# Altium schematic symbol library MCU.SchLib: 78 symbols (part 1 of 2)
Pins are listed as number, name and electrical type; pins without a type are passive.

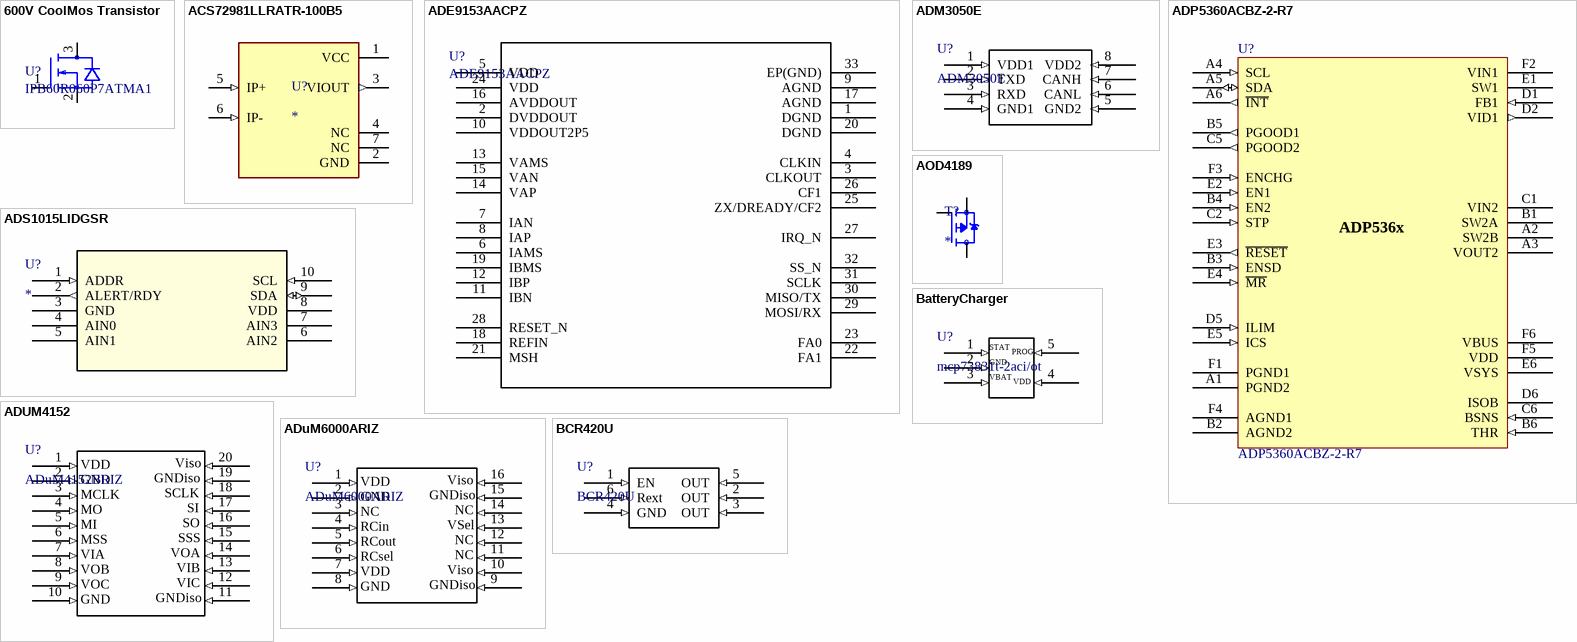
[diagram p0: symbols 600V CoolMos Transistor to BCR420U]

## 600V CoolMos Transistor
designator U?, comment IPB60R060P7ATMA1
MOSFET N-CH TO263-3, 600V
footprint D2PAK TO265-2
pins: 1 G, 2 S, 3 D

## ACS72981LLRATR-100B5
designator U?
Current Sensor 100A 1 Channel Hall Effect, Differential Bidirectional 7-PowerSMD Module; MP: ACS72981LLRATR-100B5; MF: Allegro MicroSystems; Purchase-URL: https://pricing.snapeda.com/search/part/ACS72981LLRATR-100B5/?ref=eda; Package: None; Availability: Warning; Value: *; Price: None; SnapEDA_Link: https://www.snapeda.com/parts/ACS72981LLRATR-100B5/Allegro%20MicroSystems%20LLC/view-part/4771155/?ref=snap; Check_prices: https://www.snapeda.com/parts/ACS72981LLRATR-100B5/Allegro%20MicroSystems%20LLC/view-part/4771155/?ref=eda
footprint XDCR_ACS72981LLRATR-100B5
pins: 1 VCC (power), 2 GND (power), 3 VIOUT (out), 4 NC, 5 IP+ (in), 6 IP- (in), 7 NC

## ADE9153AACPZ
designator U?
Current measurement IC; Vendor: Analog Devices Inc; Built_By: Analog_Devices_Team; Manufacturer_Part_Number: ADE9153AACPZ; Copyright: Copyright (C) 2018 Accelerated Designs. All rights reserved; RefDes: RefDes; Type: DEV; Value: Value
footprint CP_32_12
pins: 1 DGND, 2 DVDDOUT, 3 CLKOUT, 4 CLKIN, 5 VDD, 6 IAMS, 7 IAN, 8 IAP, 9 AGND, 10 VDDOUT2P5, 11 IBN, 12 IBP, 13 VAMS, 14 VAP, 15 VAN, 16 AVDDOUT, 17 AGND, 18 REFIN, 19 IBMS, 20 DGND, 21 MSH, 22 FA1, 23 FA0, 24 VDD, 25 ZX/DREADY/CF2, 26 CF1, 27 IRQ_N, 28 RESET_N, 29 MOSI/RX, 30 MISO/TX, 31 SCLK, 32 SS_N, 33 EP(GND)

## ADM3050E
designator U?
Can isolator SOIC8
footprint ADM3050E (Can Isolator)
pins: 1 VDD1 (in), 2 TXD (in), 3 RXD (in), 4 GND1 (in), 5 GND2 (in), 6 CANL (in), 7 CANH (in), 8 VDD2 (in)

## ADP5360ACBZ-2-R7
designator U?
Advanced Battery Management PMIC With Ultralow Iq Buck and Buck-Boost. Order: ADP5360ACBZ-2-R7; Part Number: ADP536x; Manufacturer: Analog Devices; Part number IPS: 80000001823; Value: ADP536x; Artikkelnr Noca: N.A.; Manufacturer Part Number: ADP536x; ComponentLink1URL: *; ComponentLink1Description: Datasheet; ComponentLink2URL: *; ComponentLink2Description: Supplier link; HelpURL: *; Footprint Doc: WLCSP-32; LatestRevisionDate: 2019-03-25; Pin Count: 32; Publisher: Nordic Semiconductor; Published: 2019-03-25; Note: *; Supplier 1: *; Supplier Part Number 1: *; Supplier 2: *; Supplier Part Number 2: *
footprint BGA32C40P6X6_238X238X56
pins: A1 PGND2 (power), A2 SW2B (power), A3 VOUT2 (power), A4 SCL (in), A5 SDA (io), A6 ~{INT} (out), B1 SW2A (power), B2 AGND2 (power), B3 ENSD (in), B4 EN2 (in), B5 PGOOD1 (out), B6 THR (in), C1 VIN2 (power), C2 STP (in), C5 PGOOD2 (out), C6 BSNS (in), D1 FB1 (in), D2 VID1 (out), D5 ILIM (in), D6 ISOB (power), E1 SW1 (power), E2 EN1 (in), E3 ~{RESET} (out), E4 ~{MR} (in), E5 ICS (in), E6 VSYS (power), F1 PGND1 (power), F2 VIN1 (power), F3 ENCHG (in), F4 AGND1 (power), F5 VDD (power), F6 VBUS (power)

## ADS1015LIDGSR
designator U?
No Description Available; Mfr_Name: Texas Instruments; RefDes: RefDes; Type: Type
footprint VSSOP10_DGS_TEX
pins: 1 ADDR (in), 2 ALERT/RDY (out), 3 GND (power), 4 AIN0, 5 AIN1, 6 AIN2, 7 AIN3, 8 VDD (power), 9 SDA (io), 10 SCL (in)

## ADUM4152
designator U?, comment ADuM4152BRIZ
SPI Isolator
footprint SOIC127P1030X254-20N (SOIC, 20-Leads, Body 15.30x7.50mm, Pitch 1.27mm, IPC Medium Density)
pins: 1 (in), 2 (in), 3 (in), 4 (in), 5 (in), 6 (in), 7 (in), 8 (in), 9 (in), 10 (in), 11 (in), 12 (in), 13 (in), 14 (in), 15 (in), 16 (in), 17 (in), 18 (in), 19 (in), 20 (in)
text: VDD; Viso; GND; GNDiso; MCLK; SCLK; MO; SI; MI; SO; MSS; SSS; VIA; VOA; VOB; VIB; VOC; VIC

## ADuM6000ARIZ
designator U?
ISOLATED DC/DC, 3V3 -> 3V3
footprint SOIC127P1030X254-16N (SOIC, 16-Leads, Body 12.75x7.50mm, Pitch 1.27mm, IPC Medium Density)
pins: 1 (in), 2 (in), 3 (in), 4 (in), 5 (in), 6 (in), 7 (in), 8 (in), 9 (in), 10 (in), 11 (in), 12 (in), 13 (in), 14 (in), 15 (in), 16 (in)
text: VDD; Viso; GND; GNDiso; NC; RCin; VSel; RCout; RCsel

## AOD4189
designator T?
P-Channel 40V 40A (Tc) 2.5W (Ta), 62.5W (Tc) Surface Mount TO-252, (D-Pak); MP: AOD4189; MF: Alpha &; Price: None; SnapEDA_Link: https://www.snapeda.com/parts/AOD4189/Alpha%20&%20Omega%20Semiconductor%20Inc./view-part/328867/?ref=snap; Value: *; Availability: In Stock; Package: TO-252 Alpha &amp; Omega Semiconductor; Check_prices: https://www.snapeda.com/parts/AOD4189/Alpha%20&%20Omega%20Semiconductor%20Inc./view-part/328867/?ref=eda
footprint DPACK
pins: 1 G, 3 S, 4 D

## BatteryCharger
designator U?, comment mcp73831t-2aci/ot
1S battery charger liion in SOT23-5 package
footprint SOT23-5_L (SOT23, 5-Leads, Body 2.95x2.80mm, Pitch 0.95mm, IPC High Density)
pins: 1 (in), 2 (in), 3 (in), 4 (in), 5 (in)
text: STAT; PROG; GND; VBAT; VDD

## BCR420U
designator U?
Linear LED driver IC for low/medium power LEDs
footprint BCR420U (LED Driver)
pins: 1 EN (in), 2 OUT (in), 3 OUT (in), 4 GND (in), 5 OUT (in), 6 Rext (in)

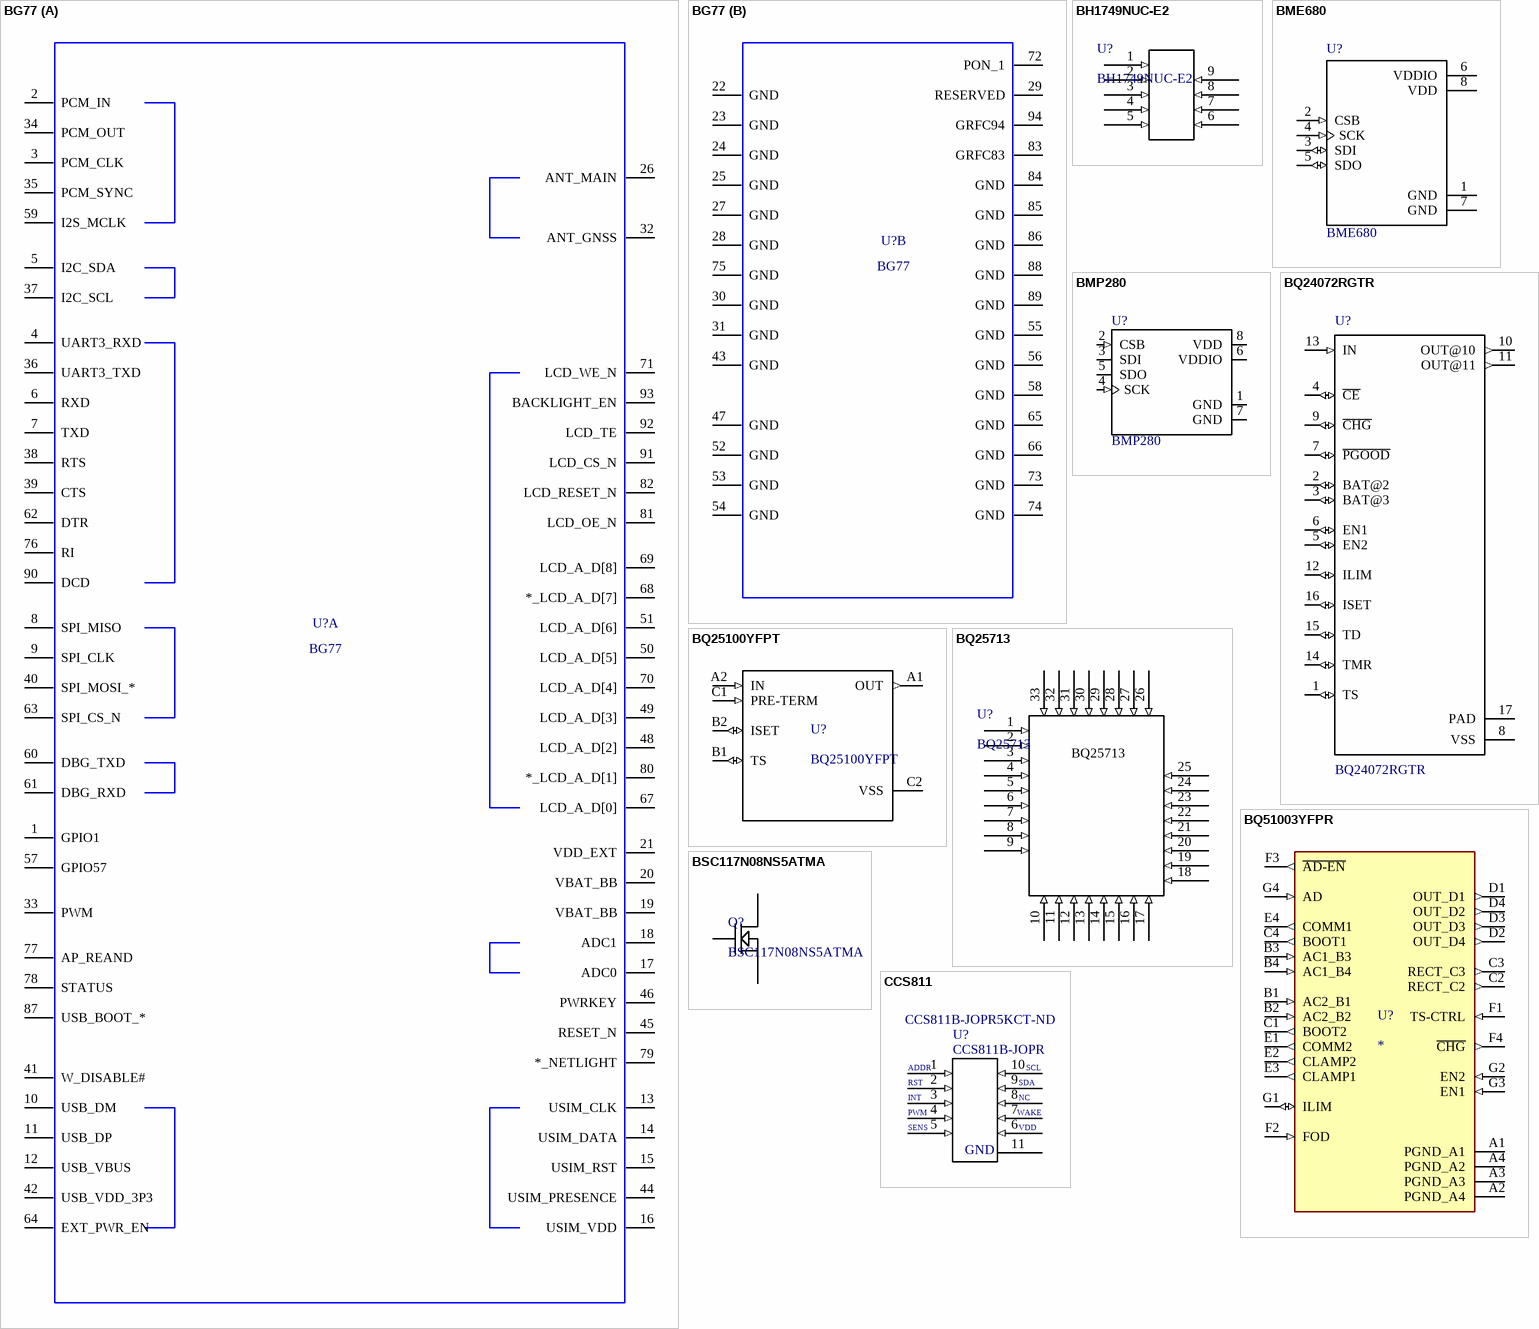
[diagram p1: symbols BG77 to CCS811]

## BG77
designator U?
Manufacturer: QUECTEL; Part Description: IC MODULE BG77 LGA-94 14.9x12.9mm H1.7mm RO; Geometry.Height: 1.7mm; Value: BG77; PCB DECAL: BG77
footprint BG77
part A pins: 1 GPIO1, 2 PCM_IN, 3 PCM_CLK, 4 UART3_RXD, 5 I2C_SDA, 6 RXD, 7 TXD, 8 SPI_MISO, 9 SPI_CLK, 10 USB_DM, 11 USB_DP, 12 USB_VBUS, 13 USIM_CLK, 14 USIM_DATA, 15 USIM_RST, 16 USIM_VDD, 17 ADC0, 18 ADC1, 19 VBAT_BB, 20 VBAT_BB, 21 VDD_EXT, 26 ANT_MAIN, 32 ANT_GNSS, 33 PWM, 34 PCM_OUT, 35 PCM_SYNC, 36 UART3_TXD, 37 I2C_SCL, 38 RTS, 39 CTS, 40 SPI_MOSI_*, 41 W_DISABLE#, 42 USB_VDD_3P3, 44 USIM_PRESENCE, 45 RESET_N, 46 PWRKEY, 48 LCD_A_D[2], 49 LCD_A_D[3], 50 LCD_A_D[5], 51 LCD_A_D[6], 57 GPIO57, 59 I2S_MCLK, 60 DBG_TXD, 61 DBG_RXD, 62 DTR, 63 SPI_CS_N, 64 EXT_PWR_EN, 67 LCD_A_D[0], 68 *_LCD_A_D[7], 69 LCD_A_D[8], 70 LCD_A_D[4], 71 LCD_WE_N, 76 RI, 77 AP_REAND, 78 STATUS, 79 *_NETLIGHT, 80 *_LCD_A_D[1], 81 LCD_OE_N, 82 LCD_RESET_N, 87 USB_BOOT_*, 90 DCD, 91 LCD_CS_N, 92 LCD_TE, 93 BACKLIGHT_EN
part B pins: 22 GND, 23 GND, 24 GND, 25 GND, 27 GND, 28 GND, 29 RESERVED, 30 GND, 31 GND, 43 GND, 47 GND, 52 GND, 53 GND, 54 GND, 55 GND, 56 GND, 58 GND, 65 GND, 66 GND, 72 PON_1, 73 GND, 74 GND, 75 GND, 83 GRFC83, 84 GND, 85 GND, 86 GND, 88 GND, 89 GND, 94 GRFC94

## BH1749NUC-E2
designator U?
RGB Light sensor digital I2C
footprint BH1749NUC-E2 (RGB Light sensor)
pins: 1 (in), 2 (in), 3 (in), 4 (in), 5 (in), 6 (in), 7 (in), 8 (in), 9 (in)

## BME680
designator U?
Gas, Humidity, Pressure, Temperature Sensor IÂ²C, SPI Output; MF: Bosch Sensortec; Digi-Key_Purchase_URL: https://www.digikey.com/product-detail/en/bosch-sensortec/BME680/828-1077-1-ND/7401321?utm_source=snapeda&utm_medium=aggregator&utm_campaign=symbol; SnapEDA_Link: https://www.snapeda.com/parts/BME680/Bosch%20Sensortec/view-part/947201/?ref=snap; MP: BME680; Digi-Key_Part_Number: 828-1077-1-ND; Package: LGA-8 Bosch Tools; Value: *; ComponentLink1Description: Datasheet; ComponentLink1URL: https://www.bosch-sensortec.com/products/environmental-sensors/gas-sensors-bme680/; Supplier 1: Digi-Key; Supplier Part Number 1: 828-1077-1-ND
footprint BME680
footprint bme680 ic
pins: 1 GND (power), 2 CSB (in), 3 SDI (io), 4 SCK (in), 5 SDO (io), 6 VDDIO (power), 7 GND (power), 8 VDD (power)

## BMP280
designator U?
Pressure Sensor 4.35PSI ~ 15.95PSI _30kPa ~ 110kPa_ Absolute 16b 8-SMD; MF: Bosch; Package: SMD-8 Bosch Sensortec; Digi-Key_Purchase_URL: https://www.digikey.no/product-detail/en/bosch-sensortec/BMP280/828-1064-1-ND/6136315?utm_source=snapeda&utm_medium=aggregator&utm_campaign=symbol; MP: BMP280; SnapEDA_Link: https://www.snapeda.com/parts/BMP280/Bosch%20Sensortec/view-part/1186631/?ref=snap; Digi-Key_Part_Number: 828-1064-1-ND; Value: *
footprint *XDCR_BMP280
pins: 1 GND (power), 2 CSB (in), 3 SDI (io), 4 SCK (in), 5 SDO (io), 6 VDDIO (power), 7 GND (power), 8 VDD (power)

## BQ24072RGTR
designator U?
1S liion charger with powerpath and protection; SnapEDA_Link: https://www.snapeda.com/parts/BQ24072RGTR/Texas%20Instruments/view-part/43339/?ref=snap; Value: *
footprint bq2407x (QFN, 16-Leads, Body 3.00x3.00mm, Pitch 0.50mm, Thermal Pad 1.68x1.68mm, IPC Medium Density)
pins: 1 TS (io), 2 BAT@2 (io), 3 BAT@3 (io), 4 ~{CE} (io), 5 EN2 (io), 6 EN1 (io), 7 ~{PGOOD} (io), 8 VSS (power), 9 ~{CHG} (io), 10 OUT@10 (out), 11 OUT@11 (out), 12 ILIM (io), 13 IN (in), 14 TMR (io), 15 TD (io), 16 ISET (io), 17 PAD (power)

## BQ25100YFPT
designator U?
Standalone 1-cell, 250-mA linear battery charger with 4.2-V charge voltage and prog. pre-charge 6-DSBGA 0 to 125; MF: Texas Instruments; DigiKey-Purchase-URL: https://snapeda.com/shop?store=DigiKey&id=251118; Mouser-Purchase-URL: https://snapeda.com/shop?store=Mouser&id=251118; SnapEDA_Link: https://www.snapeda.com/parts/BQ25100YFPT/Texas%20Instruments/view-part/251118/?ref=snap; Digi-Key_Part_Number: 296-38373-1-ND; MP: BQ25100YFPT; Value: *; Texas_Instruments-Purchase-URL: https://snapeda.com/shop?store=Texas+Instruments&id=251118; Package: DSBGA-6 Texas Instruments
footprint BQ25100YFP (Liion Charger)
pins: A1 OUT (out), A2 IN (in), B1 TS (io), B2 ISET (io), C1 PRE-TERM (in), C2 VSS (power)

## BQ25713
designator U?
NVDC I2C address 1 buck-boost battery charger controller compatible with USB type C PD
footprint BQ25713 (LI-ION battery charger USBC)
pins: 1 (in), 2 (in), 3 (in), 4 (in), 5 (in), 6 (in), 7 (in), 8 (in), 9 (in), 10 (in), 11 (in), 12 (in), 13 (in), 14 (in), 15 (in), 16 (in), 17 (in), 18 (in), 19 (in), 20 (in), 21 (in), 22 (in), 23 (in), 24 (in), 25 (in), 26 (in), 27 (in), 28 (in), 29 (in), 30 (in), 31 (in), 32 (in), 33 (in)

## BQ51003YFPR
designator U?
BQ51003 Wireless power Receiver 28-DSBGA -40 to 85; MP: BQ51003YFPR; Package: None; Value: *; Availability: Unavailable; Price: None
footprint BQ51003
pins: A1 PGND_A1 (power), A2 PGND_A4 (power), A3 PGND_A3 (power), A4 PGND_A2 (power), B1 AC2_B1 (in), B2 AC2_B2 (in), B3 AC1_B3 (in), B4 AC1_B4 (in), C1 BOOT2 (out), C2 RECT_C2 (out), C3 RECT_C3 (out), C4 BOOT1 (out), D1 OUT_D1 (out), D2 OUT_D4 (out), D3 OUT_D3 (out), D4 OUT_D2 (out), E1 COMM2 (out), E2 CLAMP2 (out), E3 CLAMP1 (out), E4 COMM1 (out), F1 TS-CTRL (in), F2 FOD (in), F3 ~{AD-EN} (out), F4 ~{CHG} (out), G1 ILIM (io), G2 EN2 (in), G3 EN1 (in), G4 AD (in)

## BSC117N08NS5ATMA
designator Q?
Mosfet; Manufacturer_Part_Number: BSC117N08NS5ATMA1; VdsMax: 80.0; IdsMax: 55.0; Rdson45: 101.0; QgTyp: 19.0; Vendor: Infineon Technologies; Datasheet_URL: http://www.infineon.com/dgdl/BSC123N08NS3G%5Frev2.3.pdf?folderId%3Ddb3a304313b8b5a60113cee8763b02d7%26fileId%3Ddb3a30431add1d95011ae80eb8555625; Quantity: 1; RefDes: RefDes; TYPE: TYPE; Value: Value
footprint PG-TDSON-8
pins: 1 Source, 2 Source, 3 Source, 4 Gate, 5 Drain, 6 Drain, 7 Drain, 8 Drain, 9 Drain

## CCS811
designator U?, comment CCS811B-JOPR  Supplier Part Number 1: CCS811B-JOPR5KCT-ND
CO2 and VOC sensor; Manufacturer Part Number: CCS811; ComponentLink1Description: Datasheet; ComponentLink1URL: https://ams.com/ccs811; Supplier 1: Digi-Key
footprint ccs811
pins: 1 (in), 2 (in), 3 (in), 4 (in), 5 (in), 6 (in), 7 (in), 8 (in), 9 (in), 10 (in), 11
text: ADDR; SCL; RST; SDA; INT; NC; PWM; WAKE; SENS; VDD; GND

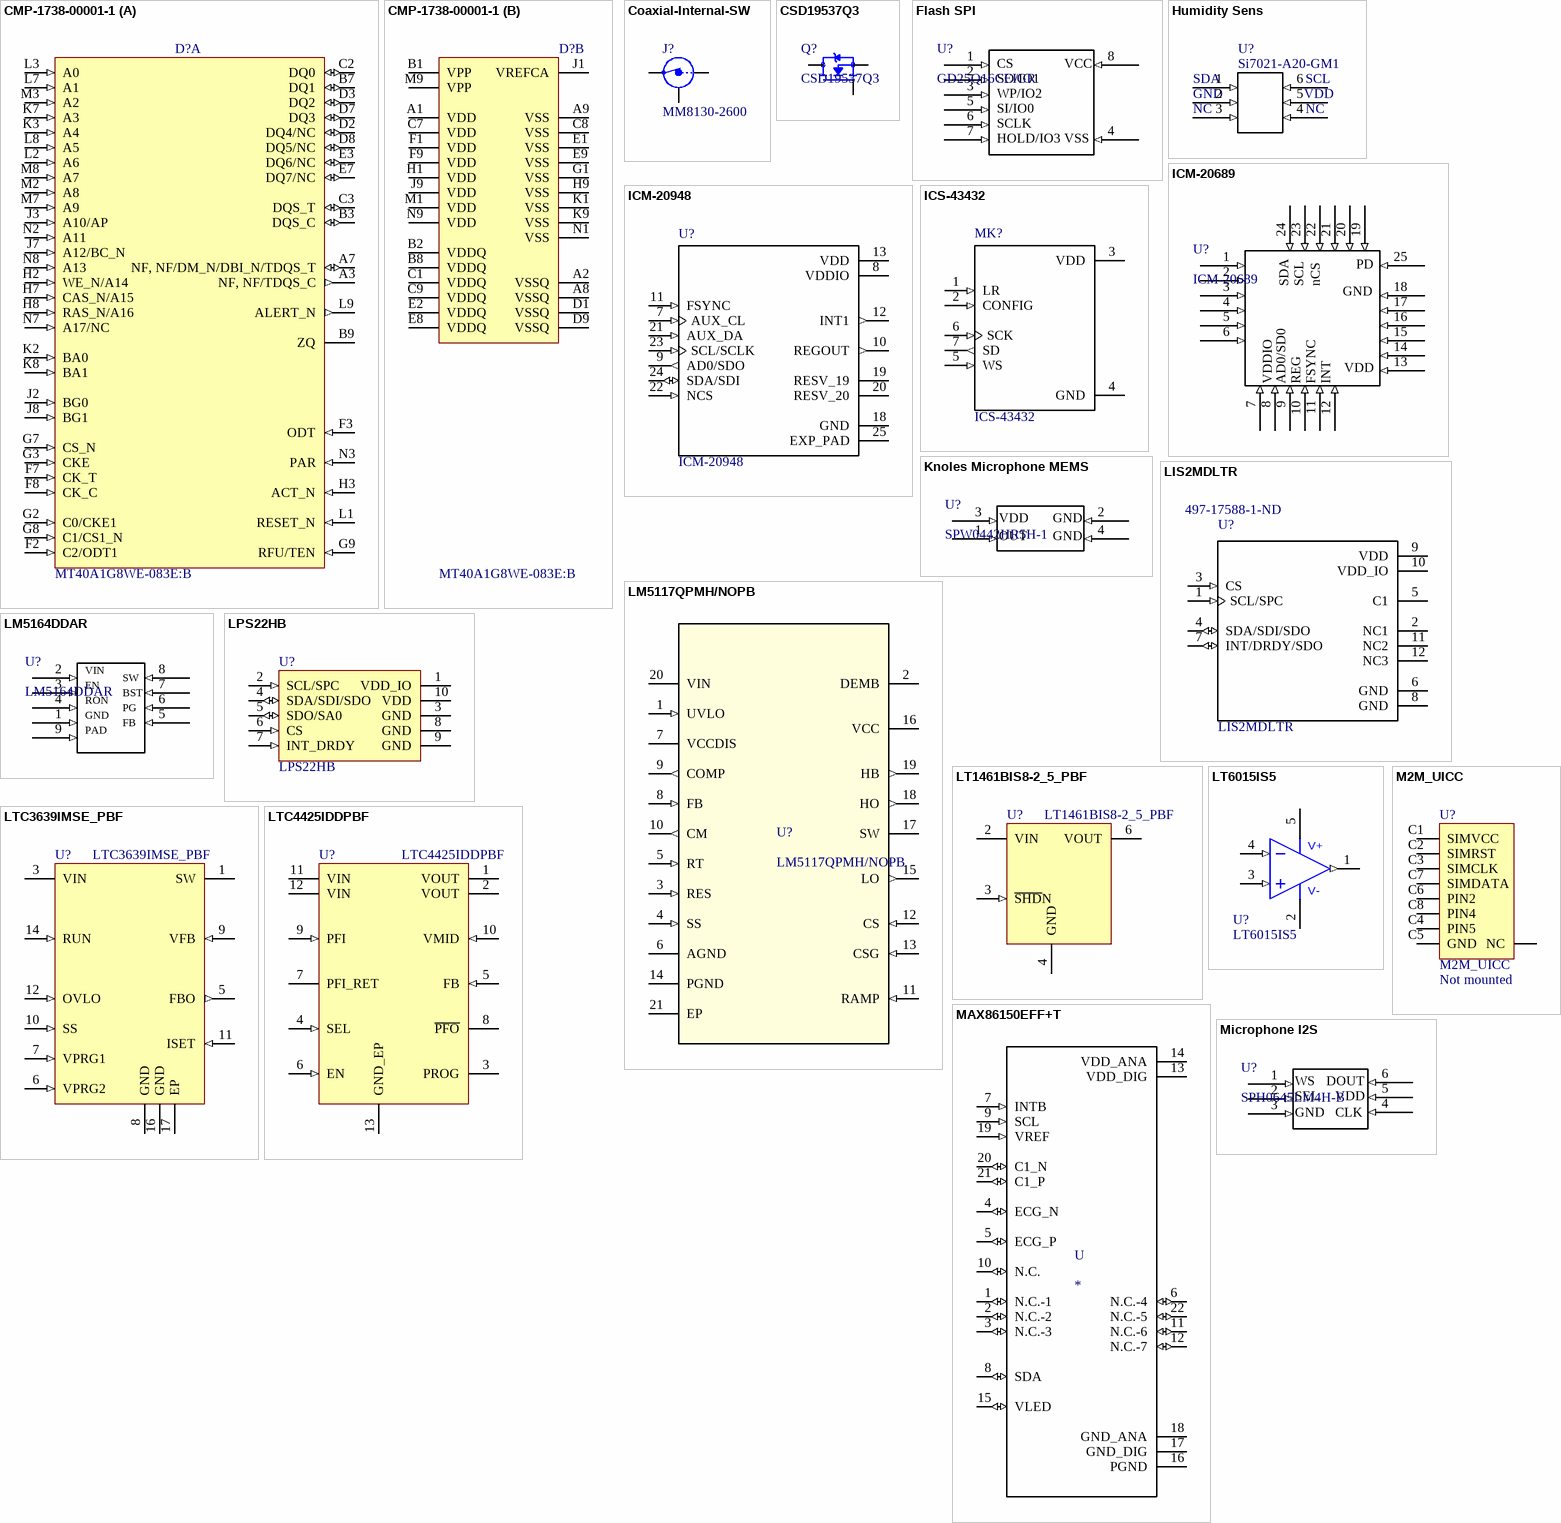
[diagram p2: symbols CMP-1738-00001-1 to Microphone I2S]

## CMP-1738-00001-1
designator D?, comment MT40A1G8WE-083E:B
8 Gb DDR4 SDRAM, 1 Gig x 8, 1.2 V, 0 to 95 degC, 78-Ball FBGA (WE), RoHS; Manufacturer: MICRON; DatasheetVersion: Rev. E, 05/2016; ComponentLink2Description: Datasheet; ComponentLink2URL: https://www.micron.com/~/media/documents/products/data-sheet/dram/ddr4/8gb_ddr4_sdram.pdf; PartNumber: MT40A1G8WE-083E:B; PackageDescription: 78-Ball Ball Grid Array, Body 8 x 12 mm, Pitch 0.8 mm; ComponentLink1URL: http://www.micron.com/; ComponentLink1Description: Manufacturer URL; Mounting Technology: Surface Mount; PartId: 1; Manufacturer Part Number: MT40A1G8WE-083E:B
footprint 200-WFBGA (DDR4)
part A pins: A3 NF, NF/TDQS_C (out), A7 NF, NF/DM_N/DBI_N/TDQS_T (io), B3 DQS_C (io) "Data strobe", B7 DQ1 (io) "Data input/output", B9 ZQ "Reference ball for ZQ calibration", C2 DQ0 (io) "Data input/output", C3 DQS_T (io) "Data strobe", D2 DQ4/NC (io), D3 DQ2 (io) "Data input/output", D7 DQ3 (io) "Data input/output", D8 DQ5/NC (io), E3 DQ6/NC (io), E7 DQ7/NC (io), F2 C2/ODT1 (in), F3 ODT (in) "On-die termination", F7 CK_T (in) "Clock", F8 CK_C (in) "Clock", G2 C0/CKE1 (in), G3 CKE (in) "Clock enable", G7 CS_N (in) "Chip select", G8 C1/CS1_N (in), G9 RFU/TEN (in), H2 WE_N/A14 (in), H3 ACT_N (in) "Command input", H7 CAS_N/A15 (in), H8 RAS_N/A16 (in), J2 BG0 (in) "Bank group address input", J3 A10/AP (in), J7 A12/BC_N (in), J8 BG1 (in) "Bank group address input", K2 BA0 (in) "Bank address input", K3 A4 (in) "Address input", K7 A3 (in) "Address input", K8 BA1 (in) "Bank address input", L1 RESET_N (in) "Active LOW asynchronous reset", L2 A6 (in) "Address input", L3 A0 (in) "Address input", L7 A1 (in) "Address input", L8 A5 (in) "Address input", L9 ALERT_N (out) "Alert output", M2 A8 (in) "Address input", M3 A2 (in) "Address input", M7 A9 (in) "Address input", M8 A7 (in) "Address input", N2 A11 (in) "Address input", N3 PAR (in) "Parity for command and address", N7 A17/NC (in), N8 A13 (in) "Address input"
part B pins: A1 VDD (power) "Power supply", A2 VSSQ (power) "DQ ground", A8 VSSQ (power) "DQ ground", A9 VSS (power) "Ground", B1 VPP (power) "DRAM activating power supply", B2 VDDQ (power) "DQ power supply", B8 VDDQ (power) "DQ power supply", C1 VDDQ (power) "DQ power supply", C7 VDD (power) "Power supply", C8 VSS (power) "Ground", C9 VDDQ (power) "DQ power supply", D1 VSSQ (power) "DQ ground", D9 VSSQ (power) "DQ ground", E1 VSS (power) "Ground", E2 VDDQ (power) "DQ power supply", E8 VDDQ (power) "DQ power supply", E9 VSS (power) "Ground", F1 VDD (power) "Power supply", F9 VDD (power) "Power supply", G1 VSS (power) "Ground", H1 VDD (power) "Power supply", H9 VSS (power) "Ground", J1 VREFCA "Reference voltage for control, command, and address pins.", J9 VDD (power) "Power supply", K1 VSS (power) "Ground", K9 VSS (power) "Ground", M1 VDD (power) "Power supply", M9 VPP (power) "DRAM activating power supply", N1 VSS (power) "Ground", N9 VDD (power) "Power supply"

## Coaxial-Internal-SW
designator J?, comment MM8130-2600
Coaxial Connector with Switch; Manufacturer: Murata; Part number IPS: N.A.; Artikkelnr Noca: 55029011; Part Number: MM8130-2600; Manufacturer Part Number: MM8130-2600; LatestRevisionDate: 2014-04-24; Pin Count: 3; Publisher: Nordic Semiconductor; Published: 2014-04-24; Value: MM8130-2600; Note: *; Footprint Doc: COAXIAL-SWF; ComponentLink1URL: *; ComponentLink1Description: Datasheet; ComponentLink2URL: *; ComponentLink2Description: Supplier link; HelpURL: http://www.murata.com/products/catalog/pdf/o33e.pdf; Supplier 1: Digi-Key; Supplier Part Number 1: 490-4981-1-ND; Supplier 2: Mouser; Supplier Part Number 2: 81-MM8130-2600RA2
footprint COAXIAL-SWF
pins: 1 IN, 2 Shield, 3 OUT

## CSD19537Q3
designator Q?
N-Channel 100V 12A (Tc) 2.6W (Ta) Surface Mount 8-SON (3.3x3.3); MP: CSD17551Q3A; MF: Texas Instruments; SnapEDA_Link: https://www.snapeda.com/parts/CSD17551Q3A/Texas%20Instruments/view-part/304205/?ref=snap; Value: *; Availability: Unavailable; DigiKey-Purchase-URL: https://snapeda.com/shop?store=DigiKey&id=304205; Package: SON-8 Texas Instruments; Price: None
footprint TRANS_CSD17551Q3A (Footprint not found)
pins: 1 S, 2 S, 3 S, 4 G, 5 D

## Flash SPI
designator U?, comment GD25Q16CEIGR
Flash SPI 16Mb = 2 MB; Supplier 1: Mouser; Supplier Part Number 1: 363-GD25Q16CEIGR
footprint GD25Q16CEIGR (Flash SPI USON8 Package)
footprint M95512-A125 (SPI EPROM)
pins: 1 (in), 2 (in), 3 (in), 4 (in), 5 (in), 6 (in), 7 (in), 8 (in)
text: CS; VCC; SO/IO1; WP/IO2; SI/IO0; SCLK; HOLD/IO3; VSS

## Humidity Sens
designator U?, comment Si7021-A20-GM1
Si7021, Humid sens; ComponentLink1Description: Datasheet; ComponentLink1URL: https://no.mouser.com/datasheet/2/368/Si7021-A20-1397917.pdf; Manufacturer Part Number: Si7021
footprint Humidity sensor (https://no.mouser.com/datasheet/2/368/Si7021-A20-1397917.pdf)
pins: 1 (in), 2 (in), 3 (in), 4 (in), 5 (in), 6 (in)
text: SDA; SCL; GND; VDD; NC

## ICM-20689
designator U?
ICM-20689 6 aksis gyro
footprint QFN50P400X400X90_HS-25N (QFN, 24-Leads, Body 4.00x4.00mm, Pitch 0.50mm, Thermal Pad 2.60x2.70mm, IPC Medium Density)
pins: 1 (in), 2 (in), 3 (in), 4 (in), 5 (in), 6 (in), 7 (in), 8 (in), 9 (in), 10 (in), 11 (in), 12 (in), 13 (in), 14 (in), 15 (in), 16 (in), 17 (in), 18 (in), 19 (in), 20 (in), 21 (in), 22 (in), 23 (in), 24 (in), 25 (in)
text: PD; SDA; SCL; nCS; GND; VDD; VDDIO; AD0/SD0; REG; FSYNC; INT

## ICM-20948
designator U?
9 Axis=3 Axis Gyro+3 Axis Accel+Compass.; MF: TDK InvenSense; Availability: Unavailable; Package: QFN-24 InvenSense; SnapEDA_Link: https://www.snapeda.com/parts/ICM-20948/TDK%20InvenSense/view-part/?ref=snap; Manufacturer Part Number: ICM-20948; Price: None; Value: *; ComponentLink1Description: Datasheet; ComponentLink1URL: http://www.invensense.com/wp-content/uploads/2016/06/DS-000189-ICM-20948-v1.3.pdf; Supplier 1: Digi-Key; Supplier Part Number 1: 1428-1123-1-ND
footprint *QFN40P300X300X105-25N
pins: 7 AUX_CL (in), 8 VDDIO (power), 9 AD0/SDO (out), 10 REGOUT (out), 11 FSYNC (in), 12 INT1 (out), 13 VDD (power), 18 GND (power), 19 RESV_19, 20 RESV_20, 21 AUX_DA (in), 22 NCS (in), 23 SCL/SCLK (in), 24 SDA/SDI (io), 25 EXP_PAD (power)

## ICS-43432
designator MK?
50Hz ~ 20kHz Digital, IÂ²S Microphone MEMS _Silicon_ 1.62V ~ 3.63V Omnidirectional _-26dB Â±1dB @ 94dB SPL_ Solder Pads; MF: TDK InvenSense; SnapEDA_Link: https://www.snapeda.com/parts/ICS-43432/TDK%20InvenSense/view-part/63105/?ref=snap; Price: None; MP: ICS-43432; Package: LGA-7 TDK-InvenSense; Availability: Unavailable; Value: *; Supplier 1: Digi-Key; Supplier Part Number 1: 1428-1053-1-ND
footprint MIC_ICS-43432 (Footprint not found)
pins: 1 LR (in), 2 CONFIG (in), 3 VDD (power), 4 GND (power), 5 WS (in), 6 SCK (in), 7 SD (out)

## Knoles Microphone MEMS
designator U?, comment SPW0442HR5H-1
Mems Microphone Analog Output; ComponentLink1Description: Datasheet; ComponentLink1URL: https://no.mouser.com/datasheet/2/218/knowles_03312017_SPW0442HR5H-1%20Datasheet%20Rev%20E-1173676.pdf
footprint SPW0442HR5H-1 (Knowles Microphone)
pins: 1 (in), 2 (in), 3 (in), 4 (in)
text: VDD; GND; OUT

## LIS2MDLTR
designator U?  Supplier Part Number 1: 497-17588-1-ND
3 axis magnetic sensor I2C; SnapEDA_Link: https://www.snapeda.com/parts/LIS2MDLTR/STMicroelectronics/view-part/839420/?ref=snap; Value: *; Supplier 1: Digi-Key
footprint PQFN50P200X200X70-12N (Footprint not found)
pins: 1 SCL/SPC (in), 2 NC1, 3 CS (in), 4 SDA/SDI/SDO (io), 5 C1, 6 GND (power), 7 INT/DRDY/SDO (io), 8 GND (power), 9 VDD (power), 10 VDD_IO (power), 11 NC2, 12 NC3

## LM5117QPMH/NOPB
designator U?
65Vin DC reg; Alternate_Manufacturer: None; Manufacturer: Texas Instruments; CurrentTime: Not shown in title block; DocumentNumber: 1; SymbolCreator: a0411947; CompType: IC; U/M: EA; Designator: U?; PIN_COUNT: 21; CurrentDate: Not shown in title block; Time: Not shown in title block; Date: Not shown in title block; DocumentFullPathAndName: Not shown in title block; DocumentName: Not shown in title block; ModifiedDate: Not shown in title block; ApprovedBy: Not shown in title block; CheckedBy: Not shown in title block; Author: Not shown in title block; CompanyName: Not shown in title block; Engineer: Not shown in title block; Organization: Not shown in title block; Address1: Not shown in title block; Address2: Not shown in title block; Address3: Not shown in title block; Address4: Not shown in title block; Revision: Use project parameter SCH_Rev; SheetNumber: 1; SheetTotal: 1; ImagePath: Not shown in title block; Rule: *; ProjectName: *; SymbolVersion: 2014-03-07; PartNumber: LM5117QPMH/NOPB; PackageReference: PWP0020A; MountType: SMT; ComponentLink1Description: Datasheet Link; ComponentLink1URL: http://www.ti.com/lit/ds/symlink/lm5117.pdf; RoHS: Y; Publisher: Texas Instruments; LatestRevisionDate: 2014-03-12; Value: Value; Type: Type; Refdes: Refdes
footprint LM5117
pins: 1 UVLO (in), 2 DEMB, 3 RES (in), 4 SS (in), 5 RT (in), 6 AGND (power), 7 VCCDIS, 8 FB (in), 9 COMP (out), 10 CM (out), 11 RAMP (in), 12 CS (in), 13 CSG (in), 14 PGND (power), 15 LO (out), 16 VCC (power), 17 SW (power), 18 HO (out), 19 HB (out), 20 VIN (power), 21 EP

## LM5164DDAR
designator U?
6-V to 100-V input, 1-A synchronous buck DC-DC converter with ultra-low IQ
footprint SOIC 8
pins: 1 (in), 2 (in), 3 (in), 4 (in), 5 (in), 6 (in), 7 (in), 8 (in), 9 (in)
text: VIN; SW; EN; BST; RON; PG; GND; FB; PAD

## LPS22HB
designator U?
MEMS nano pressure sensor: 260-1260 hPa absolute digital output barometer; Manufacturer: STMicroelectronics; 2nd source part number: 511-LPS22HBTR; Part number IPS: 00000007818; Artikkelnr Noca: N.A.; Part Number: LPS22HB; Manufacturer Part Number: LPS22HB; Datasheet: http://www.st.com/content/ccc/resource/technical/document/datasheet/bf/c1/4f/23/61/17/44/8a/DM00140895.pdf/files/DM00140895.pdf/jcr:content/translations/en.DM00140895.pdf; Footprint Doc: HLGA-10L; LatestRevisionDate: 2016-06-20; Pin Count: 10; Publisher: Nordic Semiconductor; Published: 2016-06-20; Value: LPS22HB; Note: *; Supplier: Digi-Key; Supplier part number: 497-16265-1-ND; 2nd source Supplier: Mouser; Artikkelnr Simpro: N.A.
footprint LGA50P200X200X80-10N
pins: 1 VDD_IO (power), 2 SCL/SPC (in), 3 GND (power), 4 SDA/SDI/SDO (io), 5 SDO/SA0 (io), 6 CS (in), 7 INT_DRDY (in), 8 GND (power), 9 GND (power), 10 VDD (power)

## LT1461BIS8-2_5_PBF
designator U?
Micropower Precision Low Dropout Series Voltage Reference (LT1461 Family), 2.5V, Linear Technology; RevisionEditor: cousin; RevisionNr: 0; Part Number: LT1461BIS8-2_5_PBF; Component Type: Standard; Footprint: S8_LT; ComponentLink2Description: Datasheet; ComponentLink2URL: http://tssx1/Datasheet/LT1461BIS8-2_5_PBF.pdf; RevisionDate: 26.03.2018 16:27:50; Approved: 0; Supplier Part Number 1: 584-1461BIS8-2.5PBF; Supplier 2: Digi-Key; Supplier Part Number 2: LT1461BIS8-2.5#PBF-ND; Supplier 1: Mouser
footprint S8_LT
pins: 1 DNC hidden "do not connect", 2 VIN (power) "input voltage", 3 ~{SHD}N (in) "shutdown, active low", 4 GND (power), 5 DNC hidden "do not connect", 6 VOUT (power) "output voltage", 7 DNC hidden "do not connect", 8 DNC hidden "do not connect"

## LT6015IS5
designator U?
3.2MHz, 0.8V Low Power, Over-The-Top Precision Op Amps, Linear TEchnology; RevisionEditor: cousin; RevisionNr: 0; Part Number: LT6015IS5; Component Type: Standard; Footprint: S5_TSOT-23_LT; ComponentLink2Description: Datasheet; ComponentLink2URL: http://tssx1/Datasheet/LT6015IS5.pdf; RevisionDate: 13.03.2018 19:16:16; Approved: 0; Supplier Part Number 1: 584-LT6015IS5#TRMPBF; Supplier 2: Digi-Key; Supplier Part Number 2: LT6015IS5#TRMPBFCT-ND; Supplier 1: Mouser
footprint S5_TSOT-23_LT
pins: 1 OUT (out), 2 V- (power), 3 +IN (in), 4 -IN (in), 5 V+ (power)

## LTC3639IMSE_PBF
designator U?
High Efficiency, 150V 100mA Synchronous Step-Down Converter, Linear Technology
footprint LTC3639IMSE_PBF (Footprint not found)
pins: 1 SW (power) "Switch Node Connection to Inductor. This pin connects to the drains of the internal power MOSFET switches.", 3 VIN (power) "Main Supply Pin. A ceramic bypass capacitor should be tied between this pin and GND.", 5 FBO (out) "Feedback Comparator Output. Connect to the VFB pins of additional LTC3639s to combine the output current. The typical pull-up current is 20uA. The typical pulldown impedance is 70ohm. See Applications Information.", 6 VPRG2 (in) "Output Voltage Selection. Short both pins to ground for a resistive divider programmable output voltage. Short VPRG1 to SS and short VPRG2 to ground for a 5V output voltage. Short VPRG1 to ground and short VPRG2 to SS for a (See Datasheet)", 7 VPRG1 (in) "Output Voltage Selection. Short both pins to ground for a resistive divider programmable output voltage. Short VPRG1 to SS and short VPRG2 to ground for a 5V output voltage. Short VPRG1 to ground and short VPRG2 to SS for a (See Datasheet)", 8 GND (power) "Ground.", 9 VFB (in) "Output Voltage Feedback. When configured for an adjustable output voltage, connect to an external resistive divider to divide the output voltage down for comparison to the 0.8V reference. For the fixed output configuration, (See Datasheet)", 10 SS (in) "Soft-Start Control Input. A capacitor to ground at this pin sets the output voltage ramp time. A 50uA current initially charges the soft-start capacitor until switching begins, at which time the current is reduced to its (See Datasheet)", 11 ISET (in) "Peak Current Set Input. A resistor from this pin to ground sets the peak current comparator threshold. Leave floating for the maximum peak current (230mA typical) or short to ground for minimum peak current (25mA typical). (See Datasheet)", 12 OVLO (in) "Overvoltage Lockout Input. Connect to the input supply through a resistor divider to set the overvoltage lockout level. A voltage on this pin above 1.21V disables the internal MOSFET switches. Normal operation resumes when (See Datasheet)", 14 RUN (in) "Run Control Input. A voltage on this pin above 1.21V enables normal operation. Forcing this pin below 0.7V shuts down the LTC3639, reducing quiescent current to approximately 1.4uA. Optionally, connect to the input supply (See Datasheet)", 16 GND (power) "Ground.", 17 EP (power) "Ground. The exposed pad must be soldered to the PCB ground plane for rated thermal performance."

## LTC4425IDDPBF
designator U?
Linear SuperCap Charger with Current-Limited Ideal Diode and V/I Monitor, Linear Technology; -40...+125°C; RevisionEditor: cousin; RevisionNr: 0; Part Number: LTC4425IDDPBF; Component Type: Standard; Footprint: DD_12DFN_LT; ComponentLink2Description: Datasheet; ComponentLink2URL: http://tssx1/Datasheet/LTC4425IDD_PBF.pdf; RevisionDate: 03.08.2018 15:33:48; Approved: 0; LastModifier: cousin; Supplier Part Number 1: LTC4425IDD#PBF-ND; Supplier 1: Digi-Key
footprint DD_12DFN_LT
pins: 1 VOUT (power) "Output Pin of the Charger. Typically connects to the top of the 2-cell supercap stack.", 2 VOUT (power) "Output Pin of the Charger. Typically connects to the top of the 2-cell supercap stack.", 3 PROG "Charge Current Program and Charge Current Monitor Pin. A resistor connected from PROG to ground programs the charge current. In LDO mode, this pin always servos to 1V. However, if the charge current profile is turned on, (See Datasheet)", 4 SEL (in) "Logic Input to Select One of the Two Possible Clamp Voltages (VCLAMP). If the pin is a logic low, the maximum voltage across any supercap of the stack is 2.45V. If the pin is a logic high, it is 2.7V. Do not float this pin.", 5 FB (in) "In LDO mode, output voltage is programmed by a resistor divider from VOUT via the FB pin. In this mode, the voltage on this pin always servos to the internal reference voltage of 1.2V. If the FB pin is pulled up to VIN, the (See Datasheet)", 6 EN (in) "Digital Input to Enable the Charger. If this pin is a logic high, the part is enabled and it draws only 20uA of quiescent current from the input or output when idle. If this pin is a logic low, the part is in shutdown mode (See Datasheet)", 7 PFI_RET (oc) "This pin connects to the bottom of the external resistor divider for the input power-fail comparator. In shutdown mode, an internal switch opens up this path to reduce the current drawn by the resistor divider.", 8 ~{PFO} (hiz) "Open Drain Output of the Power-Fail Comparator. This pin is driven to logic low if at least one of the following conditions is true: (1) VIN is less than a value programmed by an external divider via PFI, (2) VOUT has not (See Datasheet)", 9 PFI (in) "Input to the Power-Fail Comparator. The input voltage below which P\F\O\ pin indicates a power-fail condition can be programmed by connecting this pin to an external resistor divider between VIN and PFI_RET pin.", 10 VMID (in) "Connects to the Midpoint of the 2-Cell supercap stack. An internal leakage balancing amplifier drives this pin to a voltage which is exactly half of VOUT.", 11 VIN (power) "Input Power Pin. Typically connected to a DC source like a Li-Ion/Polymer battery or a USB port. This pin should be bypassed with a low-ESR ceramic capacitor.", 12 VIN (power) "Input Power Pin. Typically connected to a DC source like a Li-Ion/Polymer battery or a USB port. This pin should be bypassed with a low-ESR ceramic capacitor.", 13 GND_EP (power) "GND. The Exposed Pad should be connected to a continuous ground plane on the second layer of the printed circuit board by several vias directly under the part to achieve optimum thermal conduction."

## M2M_UICC
designator U?  Assembly: Not mounted
IC, M2M UICC; Part Number: M2M_UICC; Manufacturer: *; Manufacturer Part Number: *; Datasheet: *; Pin Count: 8; Value: M2M UICC; Supplier: Nordic Semiconductor; Supplier part number: *; 2nd Manufacturer: *; 2nd Manufacturer Part Number: *; 3rd Manufacturer: *; 3rd Manufacturer Part Number: *; Footprint Doc: 6.0*5.0; Part number Sanmina: *
footprint M2M_UICC
pins: C1 SIMVCC, C2 SIMRST, C3 SIMCLK, C4 PIN5, C5 GND, C6 PIN2, C7 SIMDATA, C8 PIN4, NC

## MAX86150EFF+T
designator U
Oximeter/Heart Rate Sensor IÂ²C Output; MP: MAX86150EFF+; MF: Maxim Integrated; Package: OLGA-22 Maxim; Availability: Unavailable; Price: None; Value: *; SnapEDA_Link: https://www.snapeda.com/parts/MAX86150EFF%2B/Maxim%20Integrated/view-part/680829/?ref=snap
footprint MAX86150EFF+ (Footprint not found)
pins: 1 N.C.-1 (io), 2 N.C.-2 (io), 3 N.C.-3 (io), 4 ECG_N (io), 5 ECG_P (io), 6 N.C.-4 (io), 7 INTB (in), 8 SDA (io), 9 SCL (in), 10 N.C. (io), 11 N.C.-6 (io), 12 N.C.-7 (io), 13 VDD_DIG (power), 14 VDD_ANA (power), 15 VLED (io), 16 PGND (power), 17 GND_DIG (power), 18 GND_ANA (power), 19 VREF (in), 20 C1_N (io), 21 C1_P (io), 22 N.C.-5 (io)

## Microphone I2S
designator U?, comment SPH0645LM4H-B
I2S Output Digital Microphone, • High SNR of 65dB(A) / • Low Current of typ. 600µA; Supplier 1: Digi-Key; Supplier Part Number 1: 423-1405-1-ND
footprint MIC_KNOWLES_SPH0645LM4H-B (Microphone KNOWLES SPH0645LM4H-B (170120))
pins: 1 (in), 2 (in), 3 (in), 4 (in), 5 (in), 6 (in)
text: WS; DOUT; SEL; VDD; GND; CLK

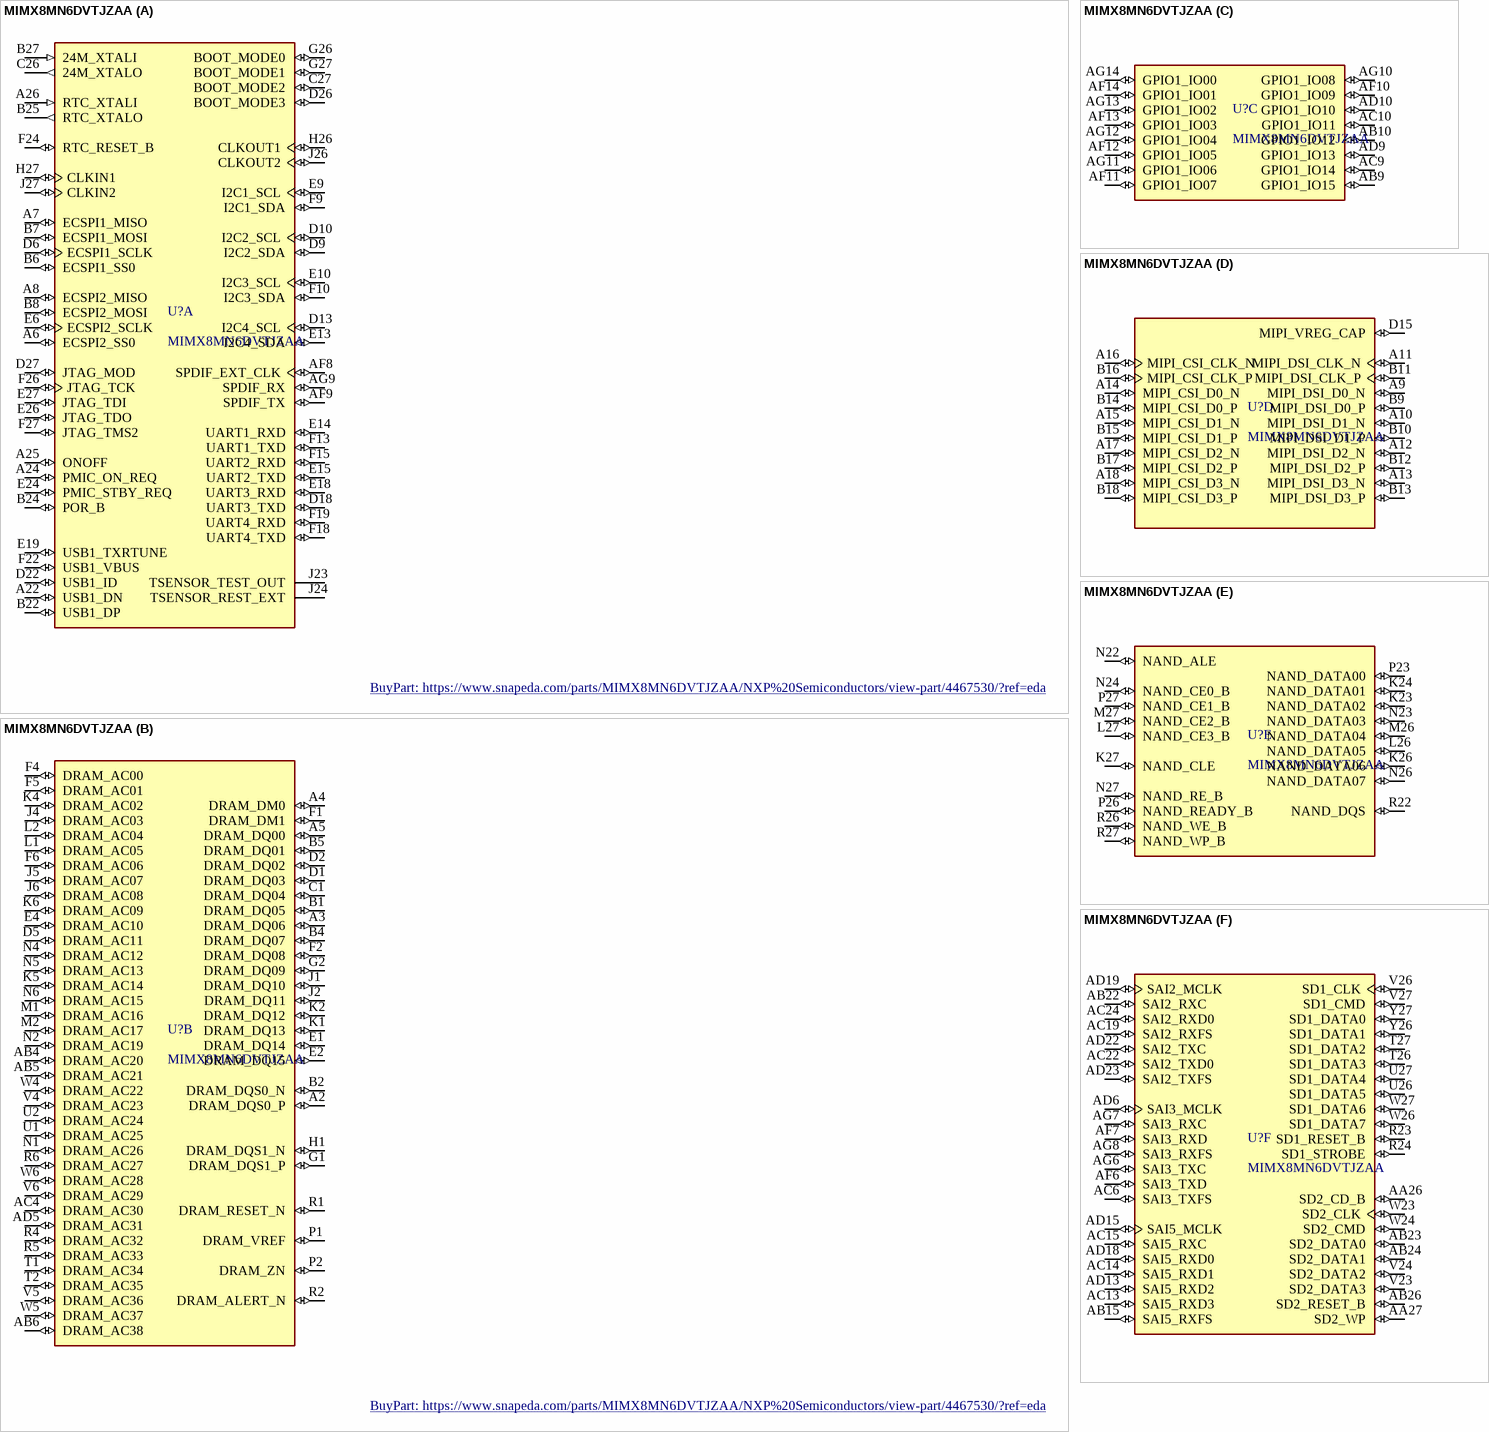
[diagram p3: symbol MIMX8MN6DVTJZAA]

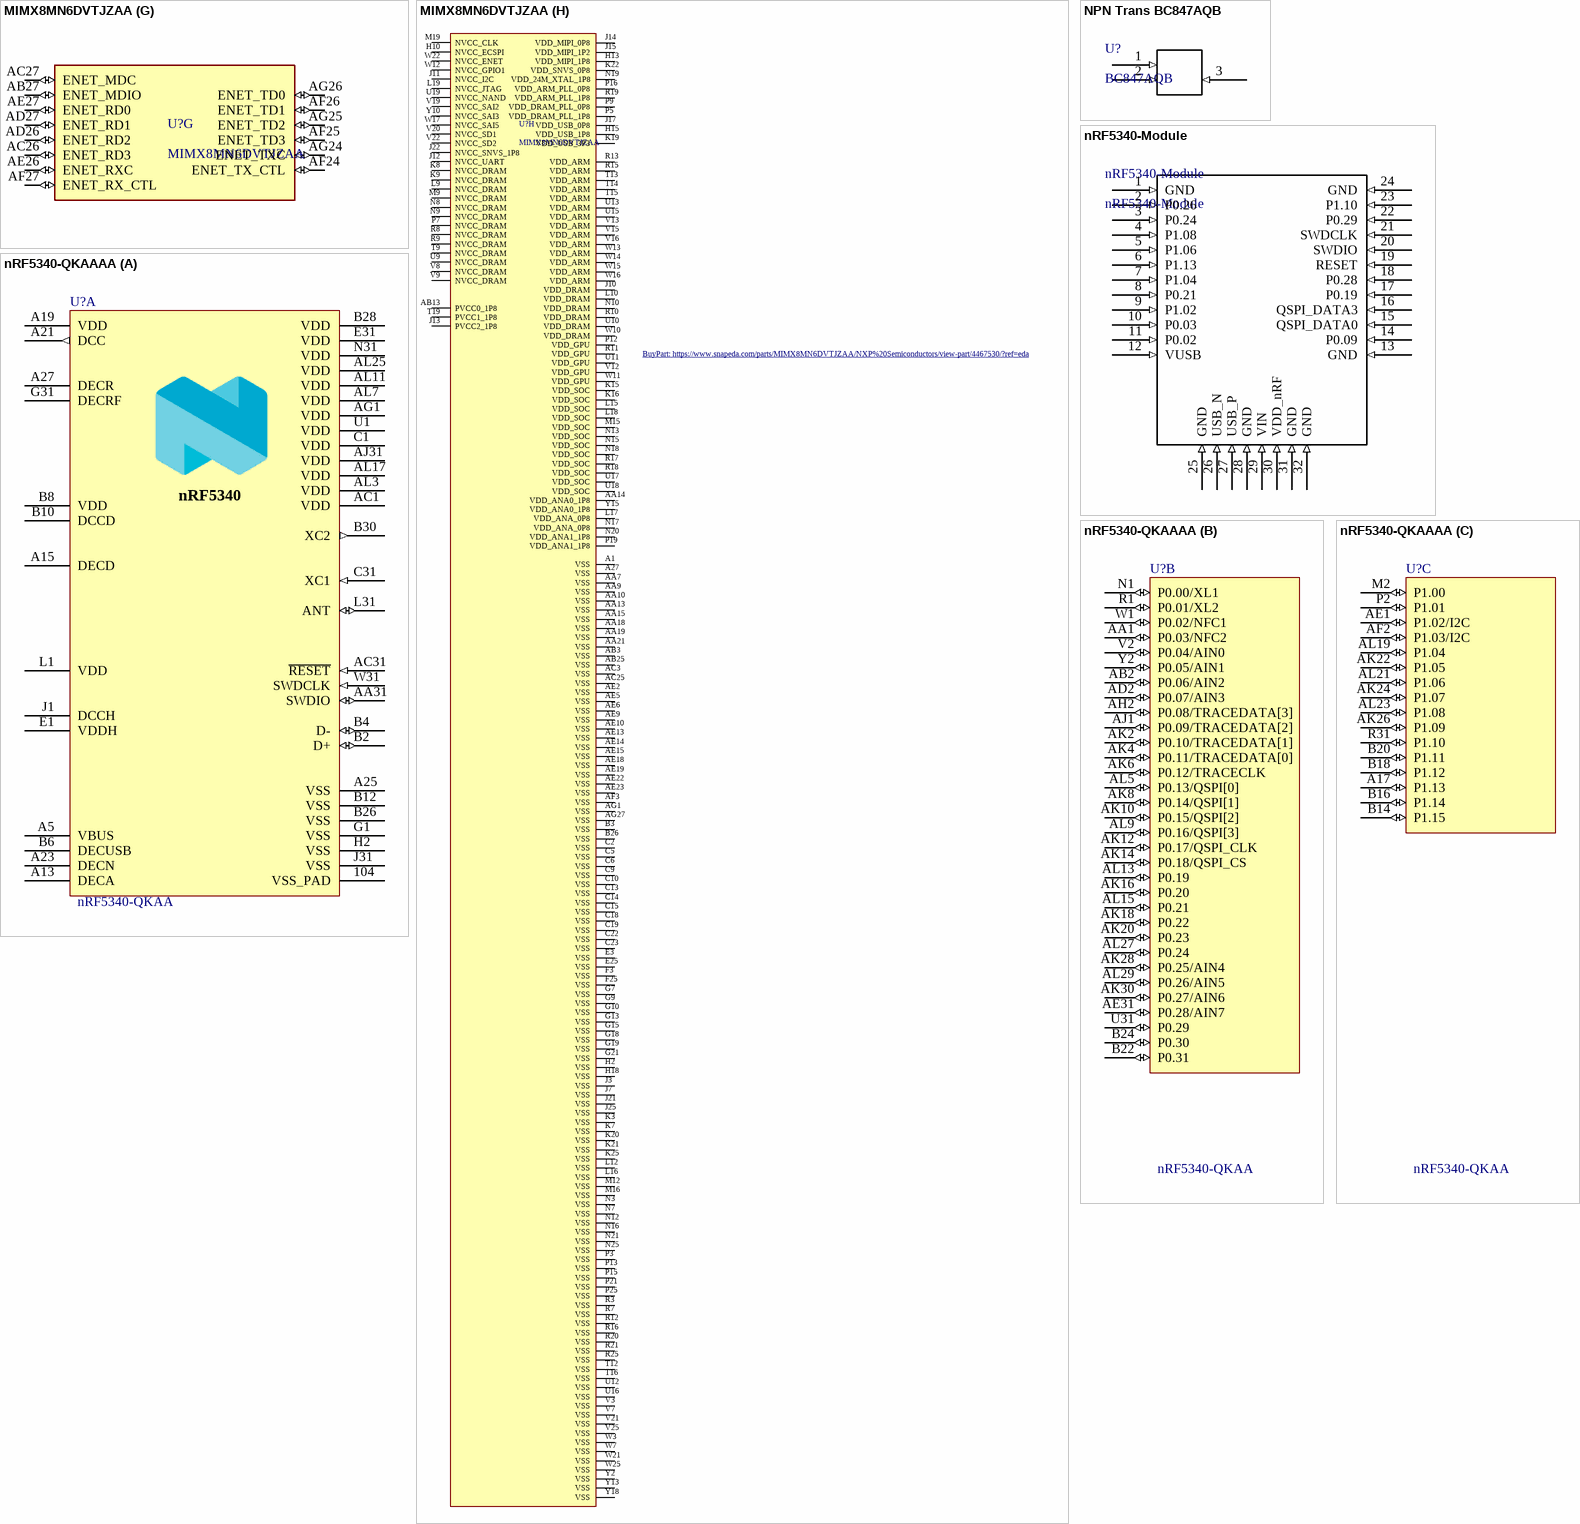
[diagram p4: symbols MIMX8MN6DVTJZAA to nRF5340-QKAAAA]

## MIMX8MN6DVTJZAA
designator U?
ARM® Cortex®-A53 Microprocessor IC i.MX8MN 4 Core, 32-Bit 1.5GHz 486-LFBGA (14x14); MF: NXP USA Inc.; Package: LFBGA-486 NXP USA Inc.; Price: None; Mouser-Purchase-URL: https://snapeda.com/shop?store=Mouser&id=4467530; Availability: Warning; MP: MIMX8MN6DVTJZAA; SnapEDA_Link: https://www.snapeda.com/parts/MIMX8MN6DVTJZAA/NXP%20Semiconductors/view-part/4467530/?ref=snap; Value: *; Arrow_Electronics-Purchase-URL: https://snapeda.com/shop?store=Arrow+Electronics&id=4467530; BuyPart: https://www.snapeda.com/parts/MIMX8MN6DVTJZAA/NXP%20Semiconductors/view-part/4467530/?ref=eda
footprint BGA486N50P27X27_1400X1400X125N
part A pins: A6 ECSPI2_SS0 (io), A7 ECSPI1_MISO (io), A8 ECSPI2_MISO (io), A22 USB1_DN (io), A24 PMIC_ON_REQ (io), A25 ONOFF (io), A26 RTC_XTALI (in), AF8 SPDIF_EXT_CLK (io), AF9 SPDIF_TX (io), AG9 SPDIF_RX (io), B6 ECSPI1_SS0 (io), B7 ECSPI1_MOSI (io), B8 ECSPI2_MOSI (io), B22 USB1_DP (io), B24 POR_B (io), B25 RTC_XTALO (out), B27 24M_XTALI (in), C26 24M_XTALO (out), C27 BOOT_MODE2 (io), D6 ECSPI1_SCLK (io), D9 I2C2_SDA (io), D10 I2C2_SCL (io), D13 I2C4_SCL (io), D18 UART3_TXD (io), D22 USB1_ID (io), D26 BOOT_MODE3 (io), D27 JTAG_MOD (io), E6 ECSPI2_SCLK (io), E9 I2C1_SCL (io), E10 I2C3_SCL (io), E13 I2C4_SDA (io), E14 UART1_RXD (io), E15 UART2_TXD (io), E18 UART3_RXD (io), E19 USB1_TXRTUNE (io), E24 PMIC_STBY_REQ (io), E26 JTAG_TDO (io), E27 JTAG_TDI (io), F9 I2C1_SDA (io), F10 I2C3_SDA (io), F13 UART1_TXD (io), F15 UART2_RXD (io), F18 UART4_TXD (io), F19 UART4_RXD (io), F22 USB1_VBUS (io), F24 RTC_RESET_B (io), F26 JTAG_TCK (io), F27 JTAG_TMS2 (io), G26 BOOT_MODE0 (io), G27 BOOT_MODE1 (io), H26 CLKOUT1 (io), H27 CLKIN1 (io), J23 TSENSOR_TEST_OUT, J24 TSENSOR_REST_EXT, J26 CLKOUT2 (io), J27 CLKIN2 (io)
part B pins: A2 DRAM_DQS0_P (io), A3 DRAM_DQ06 (io), A4 DRAM_DM0 (io), A5 DRAM_DQ00 (io), AB4 DRAM_AC20 (io), AB5 DRAM_AC21 (io), AB6 DRAM_AC38 (io), AC4 DRAM_AC30 (io), AD5 DRAM_AC31 (io), B1 DRAM_DQ05 (io), B2 DRAM_DQS0_N (io), B4 DRAM_DQ07 (io), B5 DRAM_DQ01 (io), C1 DRAM_DQ04 (io), D1 DRAM_DQ03 (io), D2 DRAM_DQ02 (io), D5 DRAM_AC11 (io), E1 DRAM_DQ14 (io), E2 DRAM_DQ15 (io), E4 DRAM_AC10 (io), F1 DRAM_DM1 (io), F2 DRAM_DQ08 (io), F4 DRAM_AC00 (io), F5 DRAM_AC01 (io), F6 DRAM_AC06 (io), G1 DRAM_DQS1_P (io), G2 DRAM_DQ09 (io), H1 DRAM_DQS1_N (io), J1 DRAM_DQ10 (io), J2 DRAM_DQ11 (io), J4 DRAM_AC03 (io), J5 DRAM_AC07 (io), J6 DRAM_AC08 (io), K1 DRAM_DQ13 (io), K2 DRAM_DQ12 (io), K4 DRAM_AC02 (io), K5 DRAM_AC14 (io), K6 DRAM_AC09 (io), L1 DRAM_AC05 (io), L2 DRAM_AC04 (io), M1 DRAM_AC16 (io), M2 DRAM_AC17 (io), N1 DRAM_AC26 (io), N2 DRAM_AC19 (io), N4 DRAM_AC12 (io), N5 DRAM_AC13 (io), N6 DRAM_AC15 (io), P1 DRAM_VREF (io), P2 DRAM_ZN (io), R1 DRAM_RESET_N (io), R2 DRAM_ALERT_N (io), R4 DRAM_AC32 (io), R5 DRAM_AC33 (io), R6 DRAM_AC27 (io), T1 DRAM_AC34 (io), T2 DRAM_AC35 (io), U1 DRAM_AC25 (io), U2 DRAM_AC24 (io), V4 DRAM_AC23 (io), V5 DRAM_AC36 (io), V6 DRAM_AC29 (io), W4 DRAM_AC22 (io), W5 DRAM_AC37 (io), W6 DRAM_AC28 (io)
part C pins: AB9 GPIO1_IO15 (io), AB10 GPIO1_IO12 (io), AC9 GPIO1_IO14 (io), AC10 GPIO1_IO11 (io), AD9 GPIO1_IO13 (io), AD10 GPIO1_IO10 (io), AF10 GPIO1_IO09 (io), AF11 GPIO1_IO07 (io), AF12 GPIO1_IO05 (io), AF13 GPIO1_IO03 (io), AF14 GPIO1_IO01 (io), AG10 GPIO1_IO08 (io), AG11 GPIO1_IO06 (io), AG12 GPIO1_IO04 (io), AG13 GPIO1_IO02 (io), AG14 GPIO1_IO00 (io)
part D pins: A9 MIPI_DSI_D0_N (io), A10 MIPI_DSI_D1_N (io), A11 MIPI_DSI_CLK_N (io), A12 MIPI_DSI_D2_N (io), A13 MIPI_DSI_D3_N (io), A14 MIPI_CSI_D0_N (io), A15 MIPI_CSI_D1_N (io), A16 MIPI_CSI_CLK_N (io), A17 MIPI_CSI_D2_N (io), A18 MIPI_CSI_D3_N (io), B9 MIPI_DSI_D0_P (io), B10 MIPI_DSI_D1_P (io), B11 MIPI_DSI_CLK_P (io), B12 MIPI_DSI_D2_P (io), B13 MIPI_DSI_D3_P (io), B14 MIPI_CSI_D0_P (io), B15 MIPI_CSI_D1_P (io), B16 MIPI_CSI_CLK_P (io), B17 MIPI_CSI_D2_P (io), B18 MIPI_CSI_D3_P (io), D15 MIPI_VREG_CAP (io)
part E pins: K23 NAND_DATA02 (io), K24 NAND_DATA01 (io), K26 NAND_DATA06 (io), K27 NAND_CLE (io), L26 NAND_DATA05 (io), L27 NAND_CE3_B (io), M26 NAND_DATA04 (io), M27 NAND_CE2_B (io), N22 NAND_ALE (io), N23 NAND_DATA03 (io), N24 NAND_CE0_B (io), N26 NAND_DATA07 (io), N27 NAND_RE_B (io), P23 NAND_DATA00 (io), P26 NAND_READY_B (io), P27 NAND_CE1_B (io), R22 NAND_DQS (io), R26 NAND_WE_B (io), R27 NAND_WP_B (io)
part F pins: AA26 SD2_CD_B (io), AA27 SD2_WP (io), AB15 SAI5_RXFS (io), AB22 SAI2_RXC (io), AB23 SD2_DATA0 (io), AB24 SD2_DATA1 (io), AB26 SD2_RESET_B (io), AC6 SAI3_TXFS (io), AC13 SAI5_RXD3 (io), AC14 SAI5_RXD1 (io), AC15 SAI5_RXC (io), AC19 SAI2_RXFS (io), AC22 SAI2_TXD0 (io), AC24 SAI2_RXD0 (io), AD6 SAI3_MCLK (io), AD13 SAI5_RXD2 (io), AD15 SAI5_MCLK (io), AD18 SAI5_RXD0 (io), AD19 SAI2_MCLK (io), AD22 SAI2_TXC (io), AD23 SAI2_TXFS (io), AF6 SAI3_TXD (io), AF7 SAI3_RXD (io), AG6 SAI3_TXC (io), AG7 SAI3_RXC (io), AG8 SAI3_RXFS (io), R23 SD1_RESET_B (io), R24 SD1_STROBE (io), T26 SD1_DATA3 (io), T27 SD1_DATA2 (io), U26 SD1_DATA5 (io), U27 SD1_DATA4 (io), V23 SD2_DATA3 (io), V24 SD2_DATA2 (io), V26 SD1_CLK (io), V27 SD1_CMD (io), W23 SD2_CLK (io), W24 SD2_CMD (io), W26 SD1_DATA7 (io), W27 SD1_DATA6 (io), Y26 SD1_DATA1 (io), Y27 SD1_DATA0 (io)
part G pins: AB27 ENET_MDIO (io), AC26 ENET_RD3 (io), AC27 ENET_MDC (io), AD26 ENET_RD2 (io), AD27 ENET_RD1 (io), AE26 ENET_RXC (io), AE27 ENET_RD0 (io), AF24 ENET_TX_CTL (io), AF25 ENET_TD3 (io), AF26 ENET_TD1 (io), AF27 ENET_RX_CTL (io), AG24 ENET_TXC (io), AG25 ENET_TD2 (io), AG26 ENET_TD0 (io)
part H pins: A1 VSS (power), A27 VSS (power), AA7 VSS (power), AA9 VSS (power), AA10 VSS (power), AA13 VSS (power), AA14 VDD_ANA0_1P8 (power), AA15 VSS (power), AA18 VSS (power), AA19 VSS (power), AA21 VSS (power), AB3 VSS (power), AB13 PVCC0_1P8 (power), AB25 VSS (power), AC3 VSS (power), AC25 VSS (power), AE2 VSS (power), AE5 VSS (power), AE6 VSS (power), AE9 VSS (power), AE10 VSS (power), AE13 VSS (power), AE14 VSS (power), AE15 VSS (power), AE18 VSS (power), AE19 VSS (power), AE22 VSS (power), AE23 VSS (power), AF3 VSS (power), AG1 VSS (power), AG27 VSS (power), B3 VSS (power), B26 VSS (power), C2 VSS (power), C5 VSS (power), C6 VSS (power), C9 VSS (power), C10 VSS (power), C13 VSS (power), C14 VSS (power), C15 VSS (power), C18 VSS (power), C19 VSS (power), C22 VSS (power), C23 VSS (power), E3 VSS (power), E25 VSS (power), F3 VSS (power), F25 VSS (power), G7 VSS (power), G9 VSS (power), G10 VSS (power), G13 VSS (power), G15 VSS (power), G18 VSS (power), G19 VSS (power), G21 VSS (power), H2 VSS (power), H10 NVCC_ECSPI (power), H13 VDD_MIPI_1P8 (power), H15 VDD_USB_1P8 (power), H18 VSS (power), J3 VSS (power), J7 VSS (power), J10 VDD_DRAM (power), J11 NVCC_I2C (power), J12 NVCC_UART (power), J13 PVCC2_1P8 (power), J14 VDD_MIPI_0P8 (power), J15 VDD_MIPI_1P2 (power), J17 VDD_USB_0P8 (power), J21 VSS (power), J22 NVCC_SNVS_1P8 (power), J25 VSS (power), K3 VSS (power), K7 VSS (power), K8 NVCC_DRAM (power), K9 NVCC_DRAM (power), K15 VDD_SOC (power), K16 VDD_SOC (power), K19 VDD_USB_3P3 (power), K20 VSS (power), K21 VSS (power), K22 VDD_SNVS_0P8 (power), K25 VSS (power), L9 NVCC_DRAM (power), L10 VDD_DRAM (power), L12 VSS (power), L15 VDD_SOC (power), L16 VSS (power), L17 VDD_ANA_0P8 (power), L18 VDD_SOC (power), L19 NVCC_JTAG (power), M9 NVCC_DRAM (power), M12 VSS (power), M15 VDD_SOC (power), M16 VSS (power), M19 NVCC_CLK (power), N3 VSS (power), N7 VSS (power), N8 NVCC_DRAM (power), N9 NVCC_DRAM (power), N10 VDD_DRAM (power), N12 VSS (power), N13 VDD_SOC (power), N15 VDD_SOC (power), N16 VSS (power), N17 VDD_ANA_0P8 (power), N18 VDD_SOC (power), N19 VDD_24M_XTAL_1P8 (power), N20 VDD_ANA1_1P8 (power), N21 VSS (power), N25 VSS (power), P3 VSS (power), P5 VDD_DRAM_PLL_1P8 (power), P7 NVCC_DRAM (power), P9 VDD_DRAM_PLL_0P8 (power), P12 VDD_GPU (power), P13 VSS (power), P15 VSS (power), P16 VDD_ARM_PLL_0P8 (power), P19 VDD_ANA1_1P8 (power), P21 VSS (power), P25 VSS (power), R3 VSS (power), R7 VSS (power), R8 NVCC_DRAM (power), R9 NVCC_DRAM (power), R10 VDD_DRAM (power), R11 VDD_GPU (power), R12 VSS (power), R13 VDD_ARM (power), R15 VDD_ARM (power), R16 VSS (power), R17 VDD_SOC (power), R18 VDD_SOC (power), R19 VDD_ARM_PLL_1P8 (power), R20 VSS (power), R21 VSS (power), R25 VSS (power), T9 NVCC_DRAM (power), T12 VSS (power), T13 VDD_ARM (power), T14 VDD_ARM (power), T15 VDD_ARM (power), T16 VSS (power), T19 PVCC1_1P8 (power), U9 NVCC_DRAM (power), U10 VDD_DRAM (power), U11 VDD_GPU (power), U12 VSS (power), U13 VDD_ARM (power), U15 VDD_ARM (power), U16 VSS (power), U17 VDD_SOC (power), U18 VDD_SOC (power), U19 NVCC_NAND (power), V3 VSS (power), V7 VSS (power), V8 NVCC_DRAM (power), V9 NVCC_DRAM (power), V12 VDD_GPU (power), V13 VDD_ARM (power), V15 VDD_ARM (power), V16 VDD_ARM (power), V19 NVCC_SAI2 (power), V20 NVCC_SD1 (power), V21 VSS (power), V22 NVCC_SD2 (power), V25 VSS (power), W3 VSS (power), W7 VSS (power), W10 VDD_DRAM (power), W11 VDD_GPU (power), W12 NVCC_GPIO1 (power), W13 VDD_ARM (power), W14 VDD_ARM (power), W15 VDD_ARM (power), W16 VDD_ARM (power), W17 NVCC_SAI5 (power), W21 VSS (power), W22 NVCC_ENET (power), W25 VSS (power), Y2 VSS (power), Y10 NVCC_SAI3 (power), Y13 VSS (power), Y15 VDD_ANA0_1P8 (power), Y18 VSS (power)

## NPN Trans BC847AQB
designator U?, comment BC847AQB
footprint NPN Transistor (BC847AQB)
pins: 1 (in), 2 (in), 3 (in)

## nRF5340-Module
designator nRF5340-Module
nRF5340-Module Available on https://www.hackster.io/kattemjau
footprint nRF53-Module (Hand Solder version)
footprint nRF53Module (Module)
pins: 1 GND (in), 2 P0.26 (in), 3 P0.24 (in), 4 P1.08 (in), 5 P1.06 (in), 6 P1.13 (in), 7 P1.04 (in), 8 P0.21 (in), 9 P1.02 (in), 10 P0.03 (in), 11 P0.02 (in), 12 VUSB (in), 13 GND (in), 14 P0.09 (in), 15 QSPI_DATA0 (in), 16 QSPI_DATA3 (in), 17 P0.19 (in), 18 P0.28 (in), 19 RESET (in), 20 SWDIO (in), 21 SWDCLK (in), 22 P0.29 (in), 23 P1.10 (in), 24 GND (in), 25 GND (in), 26 USB_N (in), 27 USB_P (in), 28 GND (in), 29 VIN (in), 30 VDD_nRF (in), 31 GND (in), 32 GND (in)

## nRF5340-QKAAAA
designator U?, comment nRF5340-QKAA
Multi-protocol Bluetooth Low Energy, IEEE 802.15.4, ANT and 2.4GHz proprietary system-on-chip; Part Number: nRF5340-QKAADA; Manufacturer: Nordic Semiconductor; Artikkelnr Noca: N.A.; Footprint Doc: AQFN-98; LatestRevisionDate: 2019-03-28; Pin Count: 98; Published: 2017-01-09; Value: nRF5340-QKAA; Manufacturer Part Number: *; ComponentLink1URL: *; ComponentLink1Description: Datasheet; ComponentLink2URL: *; ComponentLink2Description: Supplier link; HelpURL: *; Publisher: Nordic Semiconductor; Note: *; Supplier 1: Nordic Semiconductor; Supplier Part Number 1: nRF5340-QKAADA; Supplier 2: *; Supplier Part Number 2: *; Part number IPS: N.A.
footprint nRF5340 (Nordic Semiconductor)
part A pins: 104 VSS_PAD (power), A5 VBUS (power), A13 DECA (power), A15 DECD (power), A19 VDD (power), A21 DCC (out), A23 DECN (power), A25 VSS (power), A27 DECR (power), AA31 SWDIO (io), AC1 VDD (power), AC31 ~{RESET} (in), AG1 VDD (power), AG31 N.C. hidden, AJ31 VDD (power), AL3 VDD (power), AL7 VDD (power), AL11 VDD (power), AL17 VDD (power), AL25 VDD (power), B2 D+ (io), B4 D- (io), B6 DECUSB (power), B8 VDD (power), B10 DCCD (power), B12 VSS (power), B26 VSS (power), B28 VDD (power), B30 XC2 (out), C1 VDD (power), C31 XC1 (in), D2 N.C. hidden, E1 VDDH (power), E31 VDD (power), F2 N.C. hidden, G1 VSS (power), G31 DECRF (power), H2 VSS (power), J1 DCCH (power), J31 VSS (power), L1 VDD (power), L31 ANT (io), N31 VDD (power), T2 N.C. hidden, U1 VDD (power), W31 SWDCLK (in)
part B pins: AA1 P0.03/NFC2 (io), AB2 P0.06/AIN2 (io), AD2 P0.07/AIN3 (io), AE31 P0.28/AIN7 (io), AH2 P0.08/TRACEDATA[3] (io), AJ1 P0.09/TRACEDATA[2] (io), AK2 P0.10/TRACEDATA[1] (io), AK4 P0.11/TRACEDATA[0] (io), AK6 P0.12/TRACECLK (io), AK8 P0.14/QSPI[1] (io), AK10 P0.15/QSPI[2] (io), AK12 P0.17/QSPI_CLK (io), AK14 P0.18/QSPI_CS (io), AK16 P0.20 (io), AK18 P0.22 (io), AK20 P0.23 (io), AK28 P0.25/AIN4 (io), AK30 P0.27/AIN6 (io), AL5 P0.13/QSPI[0] (io), AL9 P0.16/QSPI[3] (io), AL13 P0.19 (io), AL15 P0.21 (io), AL27 P0.24 (io), AL29 P0.26/AIN5 (io), B22 P0.31 (io), B24 P0.30 (io), N1 P0.00/XL1 (io), R1 P0.01/XL2 (io), U31 P0.29 (io), V2 P0.04/AIN0 (io), W1 P0.02/NFC1 (io), Y2 P0.05/AIN1 (io)
part C pins: A17 P1.13 (io), AE1 P1.02/I2C (io), AF2 P1.03/I2C (io), AK22 P1.05 (io), AK24 P1.07 (io), AK26 P1.09 (io), AL19 P1.04 (io), AL21 P1.06 (io), AL23 P1.08 (io), B14 P1.15 (io), B16 P1.14 (io), B18 P1.12 (io), B20 P1.11 (io), M2 P1.00 (io), P2 P1.01 (io), R31 P1.10 (io)
part A text: nRF5340

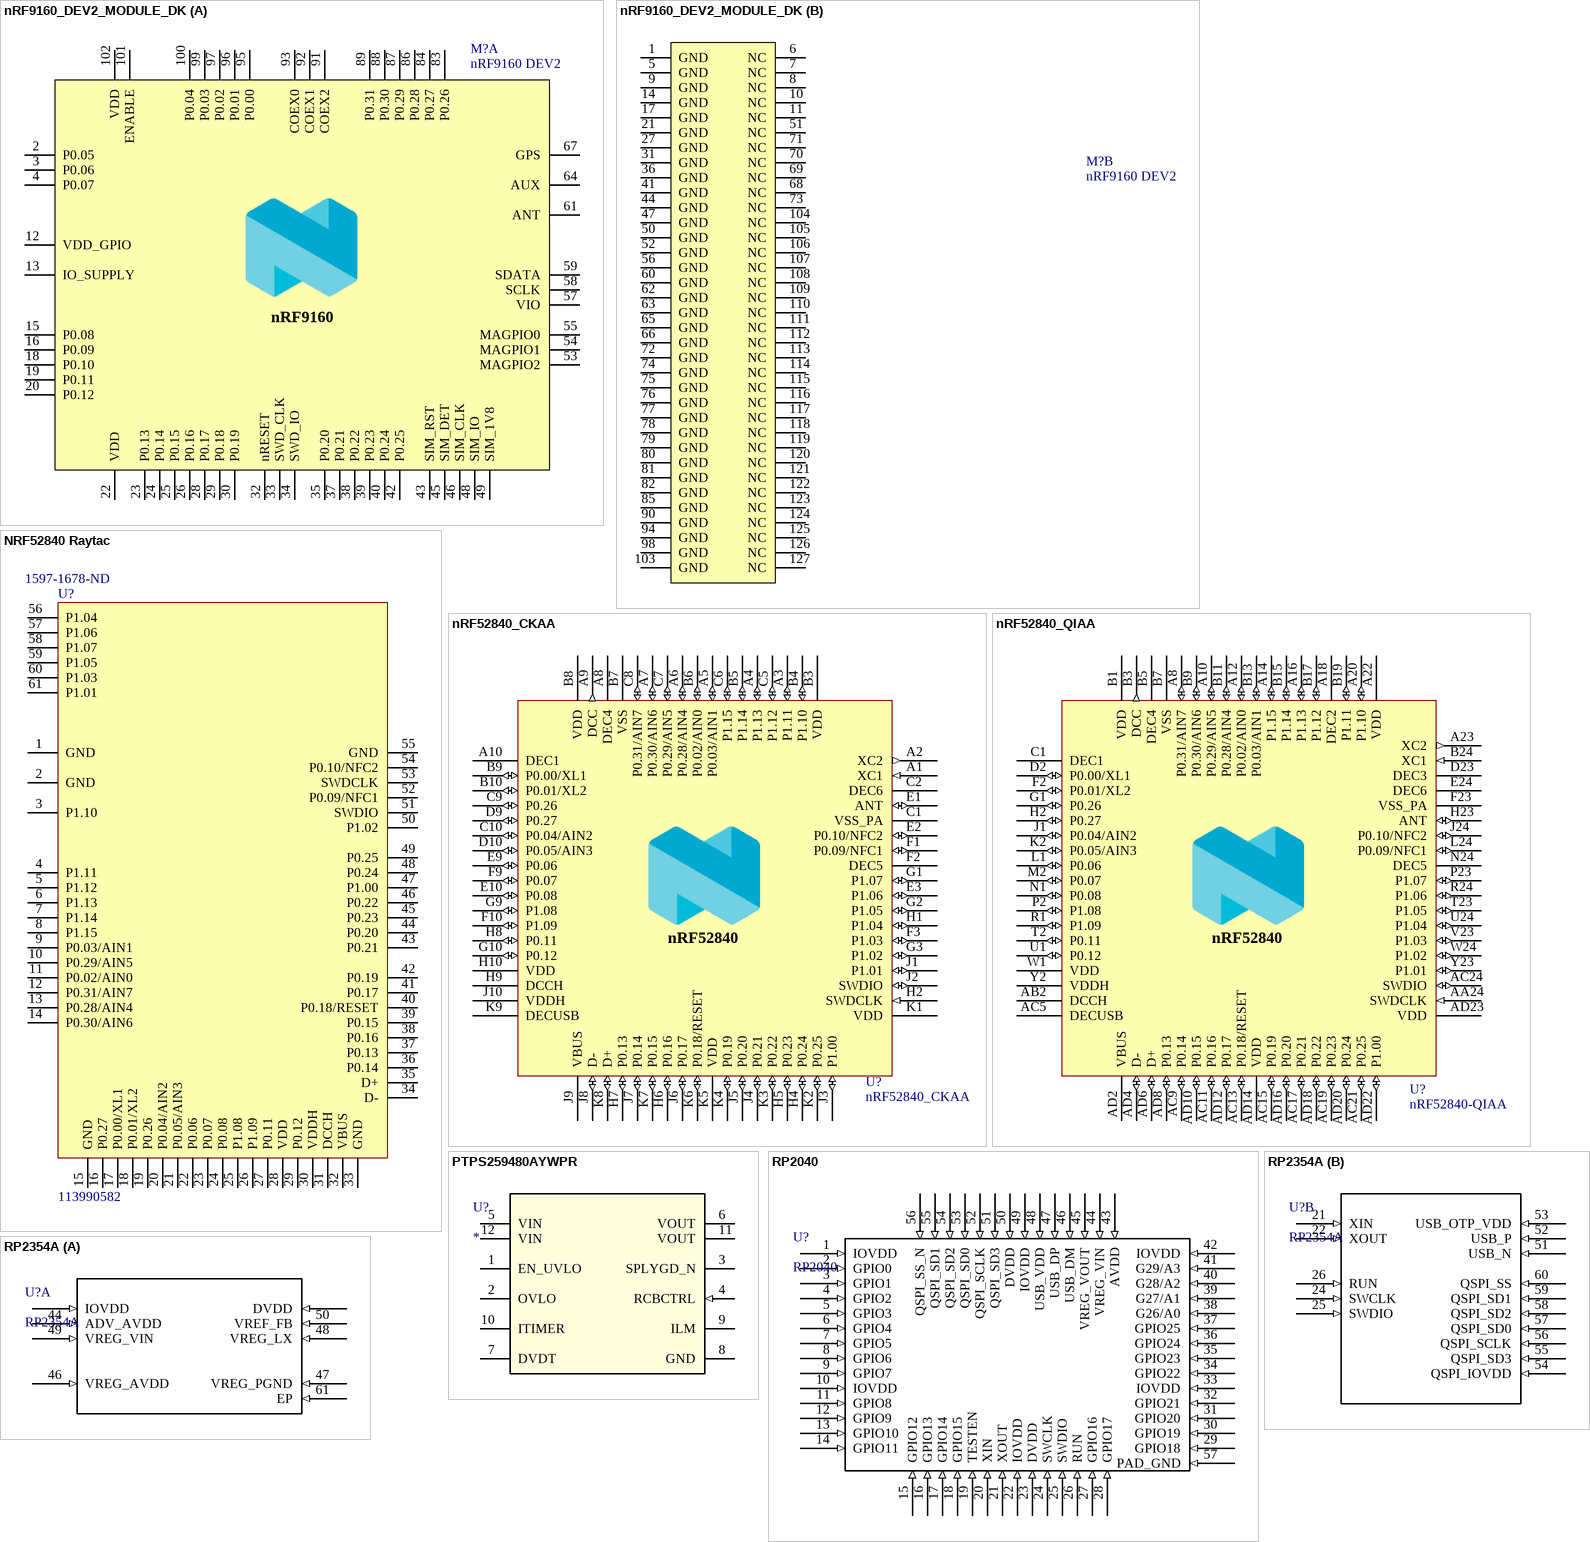
[diagram p5: symbols nRF9160_DEV2_MODULE_DK to RP2354A]

## nRF9160_DEV2_MODULE_DK
designator M?, comment nRF9160 DEV2
nRF9160 MODULE, SiP LGA; Part Number: nRF9160_DEV2_MODULE_DK; Manufacturer: Nordic Semiconductor; Part number Sanmina: LFNPNSM800002; Delivery: X; Manufacturer Part Number: nRF9160; Datasheet: *; Footprint Doc: 16.0*10.5*1.1; Pin Count: 161; Value: nRF9160 DEV2; Supplier: Nordic Semiconductor; Supplier part number: nRF9160; 2nd Manufacturer: *; 2nd Manufacturer Part Number: *; 3rd Manufacturer: *; 3rd Manufacturer Part Number: *
footprint nRF9160_DEV2_MODULE
part A pins: 1 GND hidden to GND, 2 P0.05, 3 P0.06, 4 P0.07, 5 GND hidden to GND, 9 GND hidden to GND, 12 VDD_GPIO, 13 IO_SUPPLY, 14 GND hidden to GND, 15 P0.08, 16 P0.09, 17 GND hidden to GND, 18 P0.10, 19 P0.11, 20 P0.12, 21 GND hidden to GND, 22 VDD, 23 P0.13, 24 P0.14, 25 P0.15, 26 P0.16, 27 GND hidden to GND, 28 P0.17, 29 P0.18, 30 P0.19, 31 GND hidden to GND, 32 nRESET, 33 SWD_CLK, 34 SWD_IO, 35 P0.20, 36 GND hidden to GND, 37 P0.21, 38 P0.22, 39 P0.23, 40 P0.24, 41 GND hidden to GND, 42 P0.25, 43 SIM_RST, 44 GND hidden to GND, 45 SIM_DET, 46 SIM_CLK, 47 GND hidden to GND, 48 SIM_IO, 49 SIM_1V8, 50 GND hidden to GND, 52 GND hidden to GND, 53 MAGPIO2, 54 MAGPIO1, 55 MAGPIO0, 56 GND hidden to GND, 57 VIO, 58 SCLK, 59 SDATA, 60 GND hidden to GND, 61 ANT, 62 GND hidden to GND, 63 GND hidden to GND, 64 AUX, 65 GND hidden to GND, 66 GND hidden to GND, 67 GPS, 72 GND hidden to GND, 74 GND hidden to GND, 75 GND hidden to GND, 76 GND hidden to GND, 77 GND hidden to GND, 78 GND hidden to GND, 79 GND hidden to GND, 80 GND hidden to GND, 81 GND hidden to GND, 82 GND hidden to GND, 83 P0.26, 84 P0.27, 85 GND hidden to GND, 86 P0.28, 87 P0.29, 88 P0.30, 89 P0.31, 90 GND hidden to GND, 91 COEX2, 92 COEX1, 93 COEX0, 94 GND hidden to GND, 95 P0.00, 96 P0.01, 97 P0.02, 98 GND hidden to GND, 99 P0.03, 100 P0.04, 101 ENABLE, 102 VDD, 103 GND hidden to GND
part B pins: 1 GND, 5 GND, 6 NC, 7 NC, 8 NC, 9 GND, 10 NC, 11 NC, 14 GND, 17 GND, 21 GND, 27 GND, 31 GND, 36 GND, 41 GND, 44 GND, 47 GND, 50 GND, 51 NC, 52 GND, 56 GND, 60 GND, 62 GND, 63 GND, 65 GND, 66 GND, 68 NC, 69 NC, 70 NC, 71 NC, 72 GND, 73 NC, 74 GND, 75 GND, 76 GND, 77 GND, 78 GND, 79 GND, 80 GND, 81 GND, 82 GND, 85 GND, 90 GND, 94 GND, 98 GND, 103 GND, 104 NC, 105 NC, 106 NC, 107 NC, 108 NC, 109 NC, 110 NC, 111 NC, 112 NC, 113 NC, 114 NC, 115 NC, 116 NC, 117 NC, 118 NC, 119 NC, 120 NC, 121 NC, 122 NC, 123 NC, 124 NC, 125 NC, 126 NC, 127 NC

## NRF52840 Raytac
designator U?, comment 113990582  Supplier Part Number 1: 1597-1678-ND
MDBT50Q-1M NRF52840 BASED BLE MO; ComponentLink1Description: DigiKey; ComponentLink1URL: https://www.digikey.com/product-detail/en/seeed-technology-co-ltd/113990582/1597-1678-ND/9697025; ComponentLink2Description: Adafruit; ComponentLink2URL: https://www.adafruit.com/product/4078; Supplier 1: Digi-Key
footprint PCB_MDBT50_10.5X15.5
pins: 1 GND, 2 GND, 3 P1.10, 4 P1.11, 5 P1.12, 6 P1.13, 7 P1.14, 8 P1.15, 9 P0.03/AIN1, 10 P0.29/AIN5, 11 P0.02/AIN0, 12 P0.31/AIN7, 13 P0.28/AIN4, 14 P0.30/AIN6, 15 GND, 16 P0.27, 17 P0.00/XL1, 18 P0.01/XL2, 19 P0.26, 20 P0.04/AIN2, 21 P0.05/AIN3, 22 P0.06, 23 P0.07, 24 P0.08, 25 P1.08, 26 P1.09, 27 P0.11, 28 VDD, 29 P0.12, 30 VDDH, 31 DCCH, 32 VBUS, 33 GND, 34 D-, 35 D+, 36 P0.14, 37 P0.13, 38 P0.16, 39 P0.15, 40 P0.18/RESET, 41 P0.17, 42 P0.19, 43 P0.21, 44 P0.20, 45 P0.23, 46 P0.22, 47 P1.00, 48 P0.24, 49 P0.25, 50 P1.02, 51 SWDIO, 52 P0.09/NFC1, 53 SWDCLK, 54 P0.10/NFC2, 55 GND, 56 P1.04, 57 P1.06, 58 P1.07, 59 P1.05, 60 P1.03, 61 P1.01

## nRF52840_CKAA
designator U?
Multi-protocol Bluetooth Low Energy, IEEE 802.15.4, ANT and 2.4GHz proprietary system-on-chip; Part Number: nRF52840-CKAAD0; Manufacturer: Nordic Semiconductor; LatestRevisionDate: 2018-12-17; Pin Count: 94; Publisher: Nordic Semiconductor; Published: 2018-12-17; Value: nRF52840_CKAA; Footprint Doc: WLCSP-94; Manufacturer Part Number: nRF52840-CKAAD0
footprint BGA94C35P10X10_352X356X50
pins: A1 XC1 (in), A2 XC2 (out), A3 P1.11 (io), A4 P1.13 (io), A5 P0.03/AIN1 (io), A6 P0.28/AIN4 (io), A7 P0.30/AIN6 (io), A8 DEC4 (power), A9 DCC (out), A10 DEC1 (power), B3 VDD (power), B4 P1.10 (io), B5 P1.14 (io), B6 P0.02/AIN0 (io), B7 VSS (power), B8 VDD (power), B9 P0.00/XL1 (io), B10 P0.01/XL2 (io), C1 VSS_PA (power), C2 DEC6 (power), C4 GND (power) hidden to GND, C5 P1.12 (io), C6 P1.15 (io), C7 P0.29/AIN5 (io), C8 P0.31/AIN7 (io), C9 P0.26 (io), C10 P0.04/AIN2 (io), D3 GND (power) hidden to GND, D4 GND (power) hidden to GND, D5 GND (power) hidden to GND, D6 GND (power) hidden to GND, D7 GND (power) hidden to GND, D8 GND (power) hidden to GND, D9 P0.27 (io), D10 P0.05/AIN3 (io), E1 ANT (io), E2 P0.10/NFC2 (io), E3 P1.06 (io), E4 GND (power) hidden to GND, E5 GND (power) hidden to GND, E6 GND (power) hidden to GND, E7 GND (power) hidden to GND, E8 GND (power) hidden to GND, E9 P0.06 (io), E10 P0.08 (io), F1 P0.09/NFC1 (io), F2 DEC5 (power), F3 P1.03 (io), F4 GND (power) hidden to GND, F5 GND (power) hidden to GND, F6 GND (power) hidden to GND, F7 GND (power) hidden to GND, F8 GND (power) hidden to GND, F9 P0.07 (io), F10 P1.09 (io), G1 P1.07 (io), G2 P1.05 (io), G3 P1.02 (io), G4 GND (power) hidden to GND, G5 GND (power) hidden to GND, G6 GND (power) hidden to GND, G7 GND (power) hidden to GND, G8 GND (power) hidden to GND, G9 P1.08 (io), G10 P0.12 (io), H1 P1.04 (io), H2 SWDCLK (in), H4 P0.24 (io), H5 P0.23 (io), H6 P0.16 (io), H7 P0.13 (io), H8 P0.11 (io), H9 DCCH (power), H10 VDD (power), J1 P1.01 (io), J2 SWDIO (io), J3 P1.00 (io), J4 P0.21 (io), J5 P0.20 (io), J6 P0.17 (io), J7 P0.14 (io), J8 D- (io), J9 VBUS (power), J10 VDDH (power), K1 VDD (power), K2 P0.25 (io), K3 P0.22 (io), K4 P0.19 (io), K5 VDD (power), K6 P0.18/RESET (io), K7 P0.15 (io), K8 D+ (io), K9 DECUSB (power), K10 GND (power) hidden to GND
text: nRF52840